# Altium schematic symbol library Dahlia Carrier Board.SchLib: 161 symbols (part 1 of 2)
Pins are listed as number, name and electrical type; pins without a type are passive.

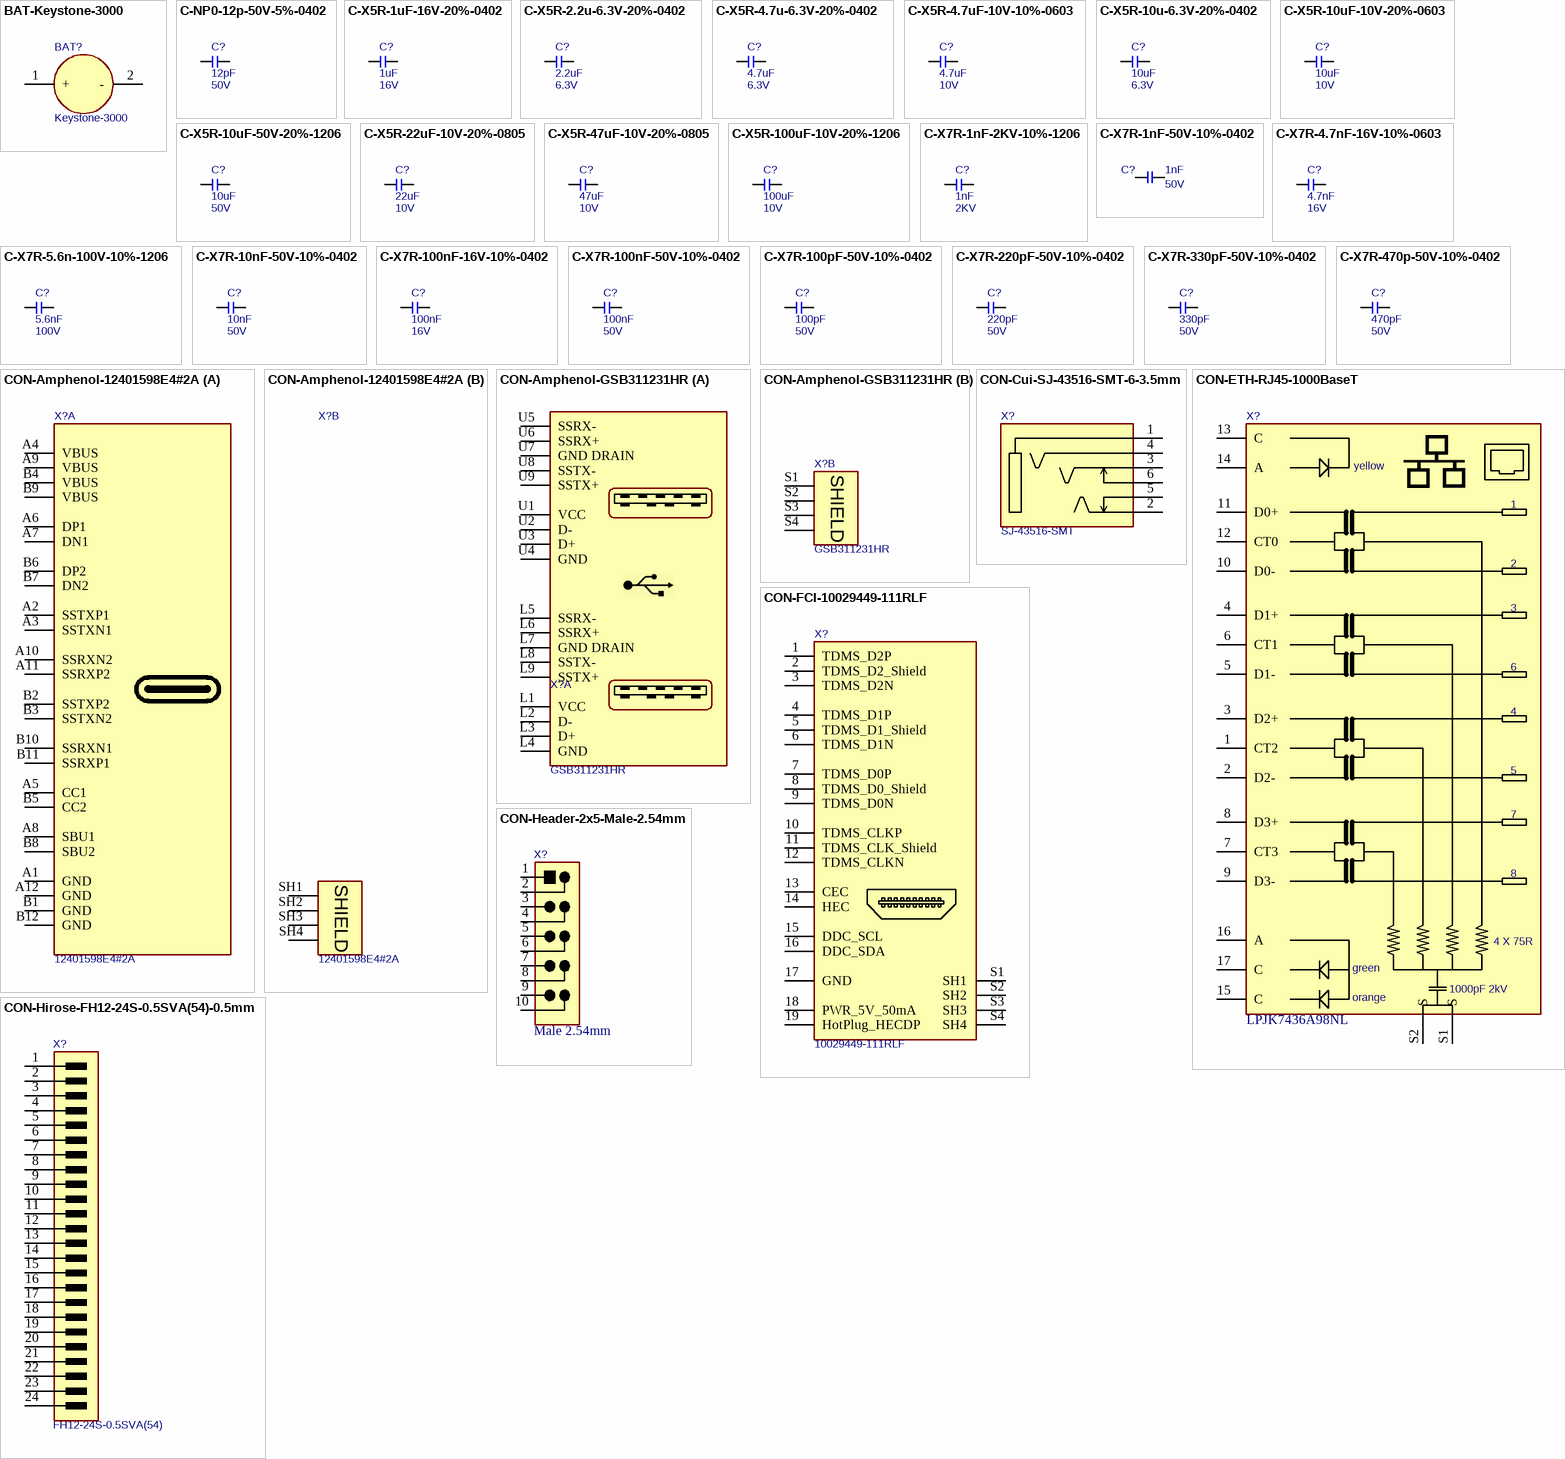
[diagram p0: symbols BAT-Keystone-3000 to CON-Hirose-FH12-24S-0.5SVA(54)-0.5mm]

## BAT-Keystone-3000
designator BAT?, comment Keystone-3000
Battery Holder; Manufacturer Part No.: 3000; Manufacturer Name: Keystone
footprint T_Keystone_3000 (Battery Holder)
pins: 1 +, 2 -

## C-NP0-12p-50V-5%-0402
designator C?, comment Rating: 50V  (hidden comment: 12pF)
Capacitor Ceramic NP0  12pF 50V 5% 0402; Tolerance: 5%; Type: NP0; Value: 12pF
footprint CAPC1005X60N
pins: 1, 2

## C-X5R-1uF-16V-20%-0402
designator C?, comment Rating: 16V  (hidden comment: 1uF)
Capacitor Ceramic X5R 1uF 16V 20% 0402; Tolerance: 20%; Type: X5R; Value: 1uF
footprint CAPC1005X60N
pins: 1, 2

## C-X5R-2.2u-6.3V-20%-0402
designator C?, comment Rating: 6.3V  (hidden comment: 2.2uF)
Capacitor Ceramic X5R 2.2uF 6.3V 20% 0402; Tolerance: 20%; Type: X5R; Value: 2.2uF
footprint CAPC1005X60N
pins: 1, 2

## C-X5R-4.7u-6.3V-20%-0402
designator C?, comment Rating: 6.3V  (hidden comment: 4.7uF)
Capacitor Ceramic X5R 4.7uF 6.3V 20% 0402; Tolerance: 20%; Type: X5R; Value: 4.7uF
footprint CAPC1005X60N
pins: 1, 2

## C-X5R-4.7uF-10V-10%-0603
designator C?, comment Rating: 10V  (hidden comment: 4.7uF)
Capacitor Ceramic X5R 4.7uF 10V 10% 0603; Tolerance: 10%; Type: X5R; Value: 4.7uF; ClassName: Power_Poly
footprint T_CAPC0603X33N
pins: 1, 2

## C-X5R-10u-6.3V-20%-0402
designator C?, comment Rating: 6.3V  (hidden comment: 10uF)
Capacitor Ceramic X5R 10uF 6.3V 20% 0402; Tolerance: 20%; Type: X5R; Value: 10uF
footprint CAPC1005X60N (Ceramic Capacitor 0402 (1005 metric), max height 0.5mm)
pins: 1, 2

## C-X5R-10uF-10V-20%-0603
designator C?, comment Rating: 10V  (hidden comment: 10uF)
Capacitor Ceramic X5R 10uF 10V 20% 0603; Tolerance: 20%; Type: X5R; Value: 10uF
footprint T_CAPC0603X33N
pins: 1, 2

## C-X5R-10uF-50V-20%-1206
designator C?, comment Rating: 50V  (hidden comment: 10uF)
Capacitor Ceramic X5R 10uF 50V 20% 1206; Tolerance: 20%; Type: X5R; Value: 10uF
footprint T_CAPC1206X60N
pins: 1, 2

## C-X5R-22uF-10V-20%-0805
designator C?, comment Rating: 10V  (hidden comment: 22uF)
Capacitor Ceramic X5R 22uF 10V 20% 0805; Tolerance: 20%; Type: X5R; Value: 22uF; ClassName: Power_Poly
footprint T_CAPC0805X125N
pins: 1, 2

## C-X5R-47uF-10V-20%-0805
designator C?, comment Rating: 10V  (hidden comment: 47uF)
Capacitor Ceramic X5R 47uF 10V 20% 0805; Tolerance: 20%; Type: X5R; Value: 47uF
footprint T_CAPC0805X125N
pins: 1, 2

## C-X5R-100uF-10V-20%-1206
designator C?, comment Rating: 10V  (hidden comment: 100uF)
Capacitor Ceramic X5R 100uF 10V 20% 1206; Tolerance: 20%; Type: X5R; Value: 100uF
footprint T_CAPC1206X60N
pins: 1, 2

## C-X7R-1nF-2KV-10%-1206
designator C?, comment Rating: 2KV  (hidden comment: 1nF)
Capacitor Ceramic X7R 1nF 2KV 10% 1206; Tolerance: 10%; Type: X7R; Value: 1nF
footprint T_CAPC1206X180N (Ceramic Capacitor 1206 (3216 metric), max height 1.8mm)
pins: 1, 2

## C-X7R-1nF-50V-10%-0402
designator C?, comment Rating: 50V  (hidden comment: 1nF)
Capacitor Ceramic X7R 1nF 50V 10% 0402; Tolerance: 10%; Type: X7R; Value: 1nF
footprint CAPC1005X60N
pins: 1, 2

## C-X7R-4.7nF-16V-10%-0603
designator C?, comment Rating: 16V  (hidden comment: 4.7nF)
Capacitor Ceramic X7R 4.7nF 16V 10% 0603; Type: X7R; Tolerance: 10%; Value: 4.7nF
footprint T_CAPC0603X33N
pins: 1, 2

## C-X7R-5.6n-100V-10%-1206
designator C?, comment Rating: 100V  (hidden comment: 5.6nF)
Capacitor Ceramic X7R 5.6nF 100V 10% 1206; Tolerance: 10%; Type: X7R; Value: 5.6nF
footprint T_CAPC1206X180N (Ceramic Capacitor 1206 (3216 metric), max height 1.8mm)
pins: 1, 2

## C-X7R-10nF-50V-10%-0402
designator C?, comment Rating: 50V  (hidden comment: 10nF)
Capacitor Ceramic X7R 10nF 50V 10% 0402; Tolerance: 10%; Type: X7R; Value: 10nF
footprint CAPC1005X60N
pins: 1, 2

## C-X7R-100nF-16V-10%-0402
designator C?, comment Rating: 16V  (hidden comment: 100nF)
Capacitor Ceramic X7R 100nF 16V 10% 0402; Tolerance: 10%; Type: X7R; Value: 100nF
footprint CAPC1005X60N
pins: 1, 2

## C-X7R-100nF-50V-10%-0402
designator C?, comment Rating: 50V  (hidden comment: 100nF)
Capacitor Ceramic X7R 100nF 50V 10% 0402; Tolerance: 10%; Type: X7R; Value: 100nF
footprint CAPC1005X60N
pins: 1, 2

## C-X7R-100pF-50V-10%-0402
designator C?, comment Rating: 50V  (hidden comment: 100pF)
Capacitor Ceramic X7R 100pF 50V 10% 0402; Tolerance: 10%; Type: X7R; Value: 100pF
footprint CAPC1005X60N
pins: 1, 2

## C-X7R-220pF-50V-10%-0402
designator C?, comment Rating: 50V  (hidden comment: 220pF)
Capacitor Ceramic X7R  220pF 50V 10% 0402; Tolerance: 10%; Type: X7R; Value: 220pF
footprint CAPC1005X60N
pins: 1, 2

## C-X7R-330pF-50V-10%-0402
designator C?, comment Rating: 50V  (hidden comment: 330pF)
Capacitor Ceramic X7R 330pF 50V 10% 0402; Tolerance: 10%; Type: X7R; Value: 330pF
footprint CAPC1005X60N
pins: 1, 2

## C-X7R-470p-50V-10%-0402
designator C?, comment Rating: 50V  (hidden comment: 470pF)
Capacitor Ceramic X7R 470pF 50V 10% 0402; Tolerance: 10%; Type: X7R; Value: 470pF
footprint CAPC1005X60N
pins: 1, 2

## CON-Amphenol-12401598E4#2A
designator X?, comment 12401598E4#2A
USB 3.1 Gen 2, Input Output Connectors, USB type C, Receptacle, Top mount, dual-row SMT, 1.6mmPCB; Manufacturer Name: Amphenol; No. of ways: 24; Manufacturer Part No.: 12401598E4#2A
footprint CON-AMPHENOL-12401598E4#2A (USB 3.1 Gen 2, Input Output Connectors, USB type C, Receptacle, Top mount, dual-row SMT, 1.6mmPCB)
part A pins: A1 GND, A2 SSTXP1, A3 SSTXN1, A4 VBUS, A5 CC1, A6 DP1, A7 DN1, A8 SBU1, A9 VBUS, A10 SSRXN2, A11 SSRXP2, A12 GND, B1 GND, B2 SSTXP2, B3 SSTXN2, B4 VBUS, B5 CC2, B6 DP2, B7 DN2, B8 SBU2, B9 VBUS, B10 SSRXN1, B11 SSRXP1, B12 GND
part B pins: SH1 SHIELD, SH2 SHIELD, SH3 SHIELD, SH4 SHIELD

## CON-Amphenol-GSB311231HR
designator X?, comment GSB311231HR
USB 3.0 double row, Type A; Manufacturer Name: Amphenol; No. of ways: 18; Manufacturer Part No.: GSB311231HR
footprint T_AMPHENOL_ GSB311231HR (USB 3.0 double row, Type A)
part A pins: L1 VCC (power), L2 D-, L3 D+, L4 GND (power), L5 SSRX- (power), L6 SSRX+ (power), L7 GND DRAIN (power), L8 SSTX- (power), L9 SSTX+ (power), U1 VCC (power), U2 D-, U3 D+, U4 GND (power), U5 SSRX- (power), U6 SSRX+ (power), U7 GND DRAIN (power), U8 SSTX- (power), U9 SSTX+ (power)
part B pins: S1 SHIELD, S2 SHIELD, S3 SHIELD, S4 SHIELD

## CON-Cui-SJ-43516-SMT-6-3.5mm
designator X?, comment SJ-43516-SMT
3.5mm Stereo Jack SMD With Detect Contact; Manufacturer Name: Cui INC; No. of ways: 6; Manufacturer Part No.: SJ-43516-SMT
footprint T_CI_SJ-43516-SMT (STEREO_3.5mm AUDIO JACK  CUI)
pins: 1, 2, 3, 4, 5, 6

## CON-ETH-RJ45-1000BaseT
designator X?, comment LPJK7436A98NL
10/100/1000 MBit/s Gigabit Ethernet RJ45 Connector, Low profile, Mag Jack, Temp. Range: -40C to +100C; Manufacturer Name: LINK-PP; Temperature Range: *; Manufacturer Part No.: LPJK7436A98NL
footprint CON-LINK-PP-LPJK7436A98NL (RJ45 Ethernet Connector 10000BaseT)
pins: 1 CT2, 2 D2-, 3 D2+, 4 D1+, 5 D1-, 6 CT1, 7 CT3, 8 D3+, 9 D3-, 10 D0-, 11 D0+, 12 CT0, 13 C, 14 A, 15 C, 16 A, 17 C, S1 S, S2 S
text: yellow; 4 X 75R; green; 1000pF 2kV; orange

## CON-FCI-10029449-111RLF
designator X?, comment 10029449-111RLF
HDMI Connector Right Angle Vertical THT; Manufacturer Name: FCI; No. of ways: 19; Manufacturer Part No.: 10029449-111RLF
footprint T_FCI_10029449-111RLF (CON RECPT HDMI THT R/A W/O FLNG)
pins: 1 TDMS_D2P, 2 TDMS_D2_Shield, 3 TDMS_D2N, 4 TDMS_D1P, 5 TDMS_D1_Shield, 6 TDMS_D1N, 7 TDMS_D0P, 8 TDMS_D0_Shield, 9 TDMS_D0N, 10 TDMS_CLKP, 11 TDMS_CLK_Shield, 12 TDMS_CLKN, 13 CEC, 14 HEC, 15 DDC_SCL, 16 DDC_SDA, 17 GND, 18 PWR_5V_50mA, 19 HotPlug_HECDP, S1 SH1, S2 SH2, S3 SH3, S4 SH4

## CON-Header-2x5-Male-2.54mm
designator X?, comment Male 2.54mm
Header Male, 2x5 Pins, 2.54mm pitch; Manufacturer Name: FCI; Manufacturer Part No.: 77313-101-10LF; No. of ways: 10
footprint CON-Header-2x5-Male-2.54mm (2.54 mm header)
pins: 1, 2, 3, 4, 5, 6, 7, 8, 9, 10

## CON-Hirose-FH12-24S-0.5SVA(54)-0.5mm
designator X?, comment FH12-24S-0.5SVA(54)
0.50mm Pitch FFC/FPC Vertical DVI Connector; Manufacturer Name: Hirose; No. of ways: 24; Pitch: 0.5mm; Manufacturer Part No.: FH12-24S-0.5SVA(54)
footprint T_Hirose_FH12-24S-0.5SVA(54) (FFC Connector 0.5mm pitch Vertical)
pins: 1 GND, 2 TMDS_CLK_P, 3 TMDS_CLK_N, 4 GND, 5 TMDS_DATA0_P, 6 TMDS_DATA0_N, 7 GND, 8 TMDS_DATA1_P, 9 TMDS_DATA1_N, 10 GND, 11 TMDS_DATA2_P, 12 TMDS_DATA2_N, 13 VDD, 14 HOTPLUG_DETECT, 15 DDC_CLK, 16 DDC_DATA, 17 GND, 18 CRT_RED, 19 GND, 20 CRT_GREEN, 21 GND, 22 CRT_BLUE, 23 CRT_VSYNC, 24 CRT_HSYNC

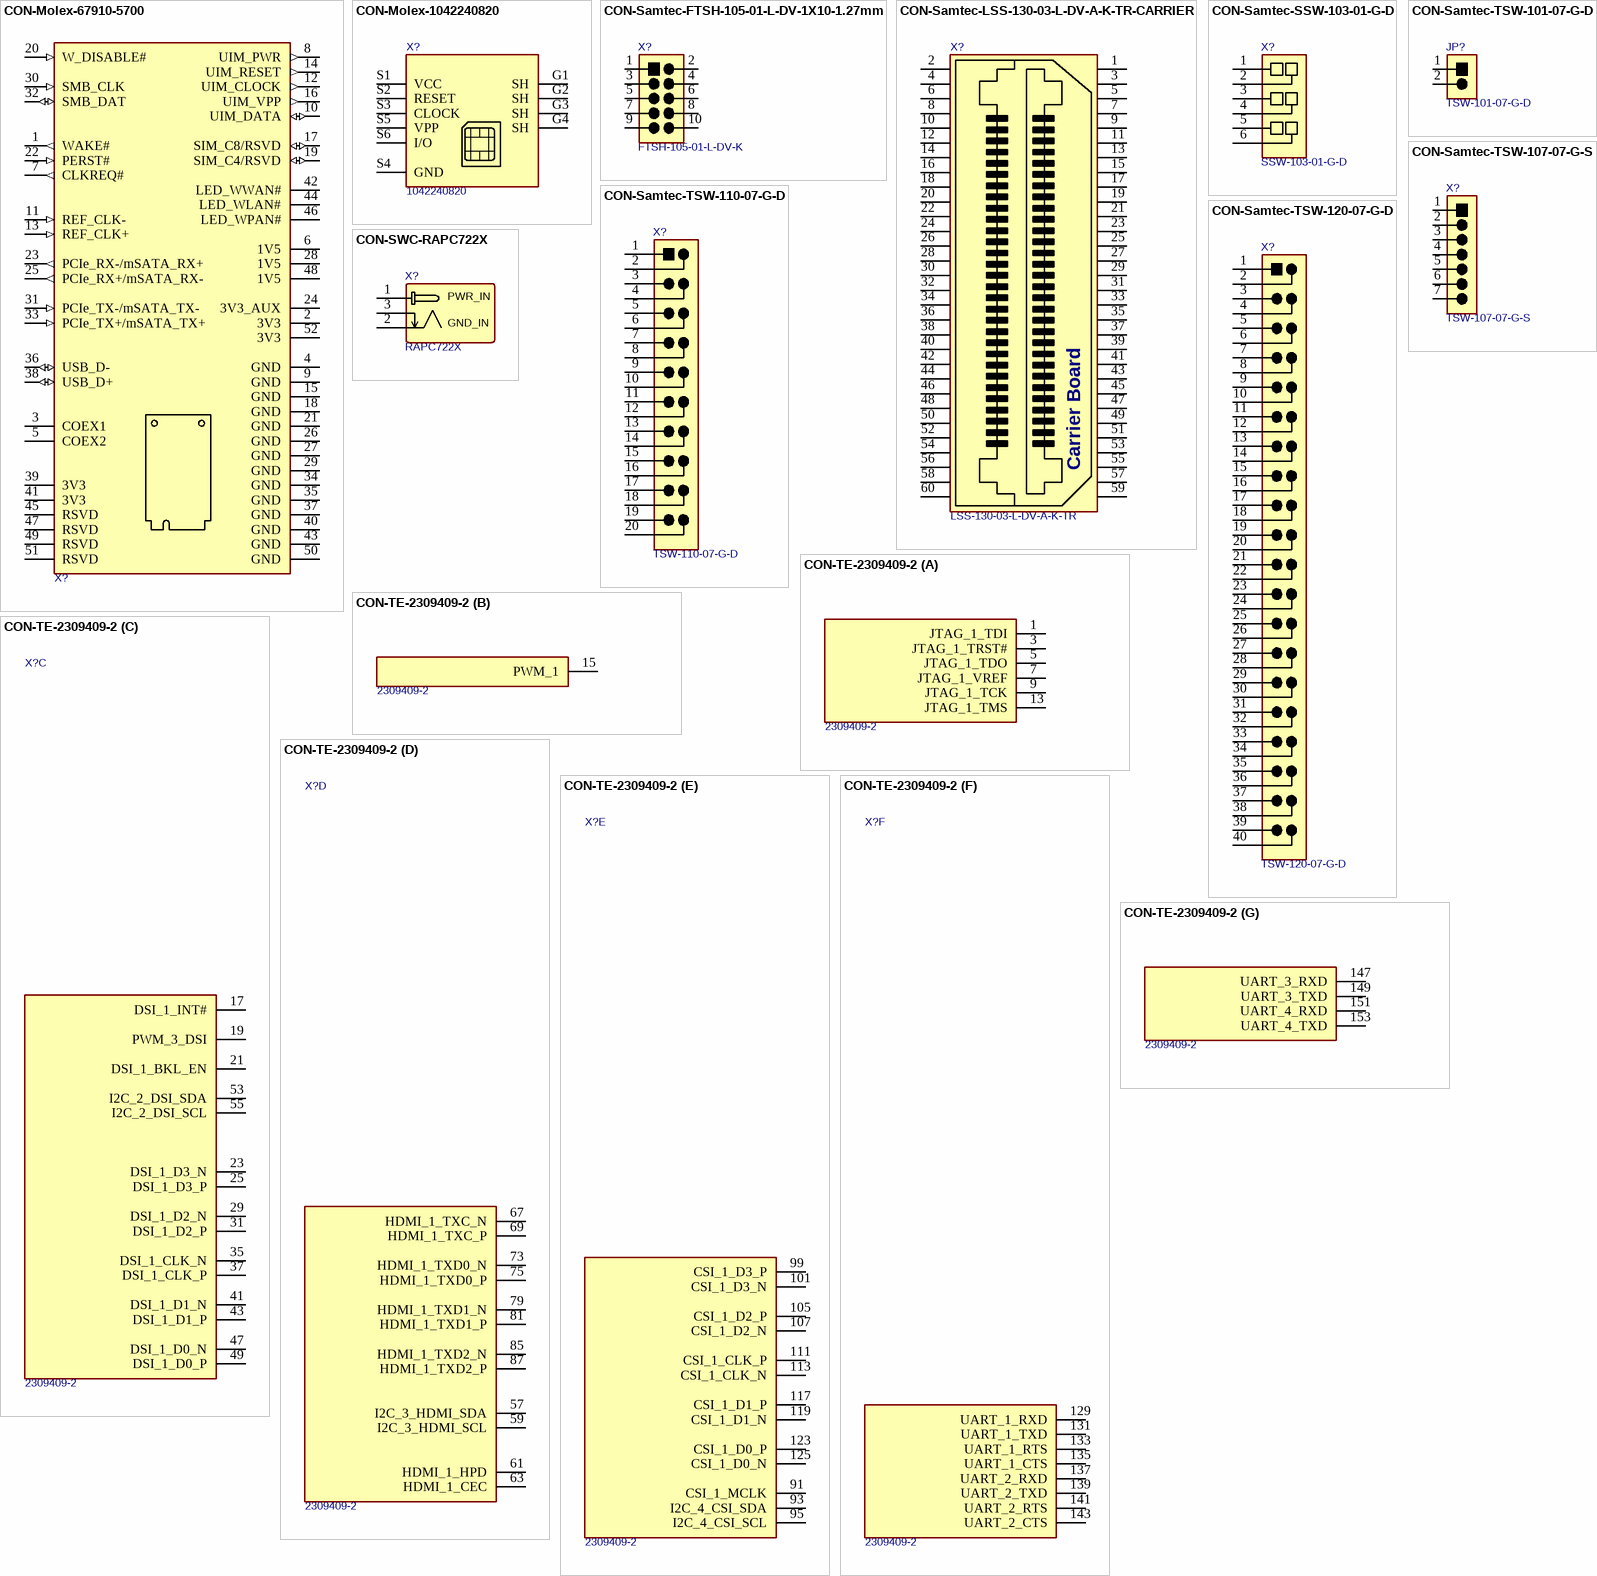
[diagram p1: symbols CON-Molex-67910-5700 to CON-TE-2309409-2]

## CON-Molex-67910-5700
designator X?, comment 67910-5700  (value not drawn)
PCIe_Mini Card Holder; Manufacturer Name: Molex; Manufacturer Part No.: 67910-5700
footprint CON-Molex-67910-5700-Full (Molex PCIe mini card connector with clip)
footprint CON-Molex-67910-5700-Half/Full (Molex PCIe mini card connector with clip)
pins: 1 WAKE# (out), 2 3V3 (power), 3 COEX1, 4 GND (power), 5 COEX2, 6 1V5 (power), 7 CLKREQ# (out), 8 UIM_PWR (out), 9 GND (power), 10 UIM_DATA (io), 11 REF_CLK- (in), 12 UIM_CLOCK (out), 13 REF_CLK+ (in), 14 UIM_RESET (out), 15 GND (power), 16 UIM_VPP (out), 17 SIM_C8/RSVD (io), 18 GND (power), 19 SIM_C4/RSVD (io), 20 W_DISABLE# (in), 21 GND (power), 22 PERST# (in), 23 PCIe_RX-/mSATA_RX+ (out), 24 3V3_AUX (power), 25 PCIe_RX+/mSATA_RX- (out), 26 GND (power), 27 GND (power), 28 1V5 (power), 29 GND (power), 30 SMB_CLK (in), 31 PCIe_TX-/mSATA_TX- (in), 32 SMB_DAT (io), 33 PCIe_TX+/mSATA_TX+ (in), 34 GND (power), 35 GND (power), 36 USB_D- (io), 37 GND (power), 38 USB_D+ (io), 39 3V3, 40 GND (power), 41 3V3, 42 LED_WWAN# (oc), 43 GND (power), 44 LED_WLAN# (oc), 45 RSVD, 46 LED_WPAN# (oc), 47 RSVD, 48 1V5 (power), 49 RSVD, 50 GND (power), 51 RSVD, 52 3V3 (power)

## CON-Molex-1042240820
designator X?, comment 1042240820
6 Contacts Nano Sim Card Holder; Manufacturer Name: Molex; Manufacturer Part No.: 1042240820
footprint T_Molex_1042240820
pins: G1 SH, G2 SH, G3 SH, G4 SH, S1 VCC, S2 RESET, S3 CLOCK, S4 GND, S5 VPP, S6 I/O

## CON-Samtec-FTSH-105-01-L-DV-1X10-1.27mm
designator X?, comment FTSH-105-01-L-DV-K
Male Header, 10-Pin, 1.27mm Pitch; Manufacturer Name: Samtec; No. of ways: 1X10; Pitch: 1.27mm; Manufacturer Part No.: FTSH-105-01-L-DV-K
footprint T_Samtec_FTSH-105-01-L-DV (Header, 2x5 Pins, 1.27mm pitch, male)
pins: 1, 2, 3, 4, 5, 6, 7, 8, 9, 10

## CON-Samtec-LSS-130-03-L-DV-A-K-TR-CARRIER
designator X?, comment LSS-130-03-L-DV-A-K-TR
60 Position Connector, Self Mating, Non-Gendered, Surface Mount; Manufacturer Name: Samtec; Pitch: 0.635mm; No. of ways: 60; Manufacturer Part No.: LSS-130-03-L-DV-A-K-TR
footprint CON-SAMTEC-LSS-130-03-L-DV-A-CARRIER (0.635 mm Razor Beam High-Speed Hermaphroditic Terminal/Socket Strip)
pins: 1, 2, 3, 4, 5, 6, 7, 8, 9, 10, 11, 12, 13, 14, 15, 16, 17, 18, 19, 20, 21, 22, 23, 24, 25, 26, 27, 28, 29, 30, 31, 32, 33, 34, 35, 36, 37, 38, 39, 40, 41, 42, 43, 44, 45, 46, 47, 48, 49, 50, 51, 52, 53, 54, 55, 56, 57, 58, 59, 60
text: Carrier Board

## CON-Samtec-SSW-103-01-G-D
designator X?, comment Manufacturer Part No.: SSW-103-01-G-D  (hidden comment: TSW-103-01-G-D)
Receptacle Female Socket, 2x3 Pins, 2.54mm pitch; Manufacturer Name: Samtec; No. of ways: 2x3; Pitch: 2.54mm
footprint T_Samtec_SSW-103-01-G-D (Receptacle Female Socket  2x3 Pins, 2.54 mm pitch)
pins: 1, 2, 3, 4, 5, 6

## CON-Samtec-TSW-101-07-G-D
designator JP?, comment TSW-101-07-G-D
Header male, 1x2 Pins, 2.54 mm pitch; Manufacturer Name: Samtec; Pitch: 2.54 mm; No. of ways: 1x2; Manufacturer Part no.: TSW-101-07-G-D
footprint T_Samtec_TSW-101-07-G-D (Header, 1x2 Pins, 2.54 mm pitch, male)
pins: 1, 2

## CON-Samtec-TSW-107-07-G-S
designator X?, comment TSW-107-07-G-S
Header male, 1X7 Pins, 2.54 mm pitch; Manufacturer Name: Samtec; Pitch: 2.54 mm; No. of ways: 1X7; Manufacturer Part No.: TSW-107-07-G-S
footprint T_Samtec_TSW-107-07-G-S
pins: 1, 2, 3, 4, 5, 6, 7

## CON-Samtec-TSW-110-07-G-D
designator X?, comment TSW-110-07-G-D
Header 2x10 pin 2.54mm pitch; Manufacturer Name: Samtec; Pitch: 2.54mm; No. of ways: 2x10; Manufacturer Part No.: TSW-110-07-G-D
footprint T_Samtec_TSW-110-07-G-D
pins: 1, 2, 3, 4, 5, 6, 7, 8, 9, 10, 11, 12, 13, 14, 15, 16, 17, 18, 19, 20

## CON-Samtec-TSW-120-07-G-D
designator X?, comment TSW-120-07-G-D
Header 2x20 pin 2.54mm pitch; Manufacturer Name: Samtec; Pitch: 2.54mm; No. of ways: 2x20; Manufacturer Part No.: TSW-120-07-G-D
footprint T_Samtec_TSW-120-07-G-D (Header, 2x20 Pins, 2.54 mm pitch, male)
pins: 1, 2, 3, 4, 5, 6, 7, 8, 9, 10, 11, 12, 13, 14, 15, 16, 17, 18, 19, 20, 21, 22, 23, 24, 25, 26, 27, 28, 29, 30, 31, 32, 33, 34, 35, 36, 37, 38, 39, 40

## CON-SWC-RAPC722X
designator X?, comment RAPC722X
Power Jack; Manufacturer Name: SWC; Manufacturer Part No.: RAPC722X
footprint T_RAPC722X (Connector, 2.1mm (Dia), 5.5mm(Dia), Round Power Socket)
pins: 1 GND_IN, 2 PWR_IN, 3 PWR_IN

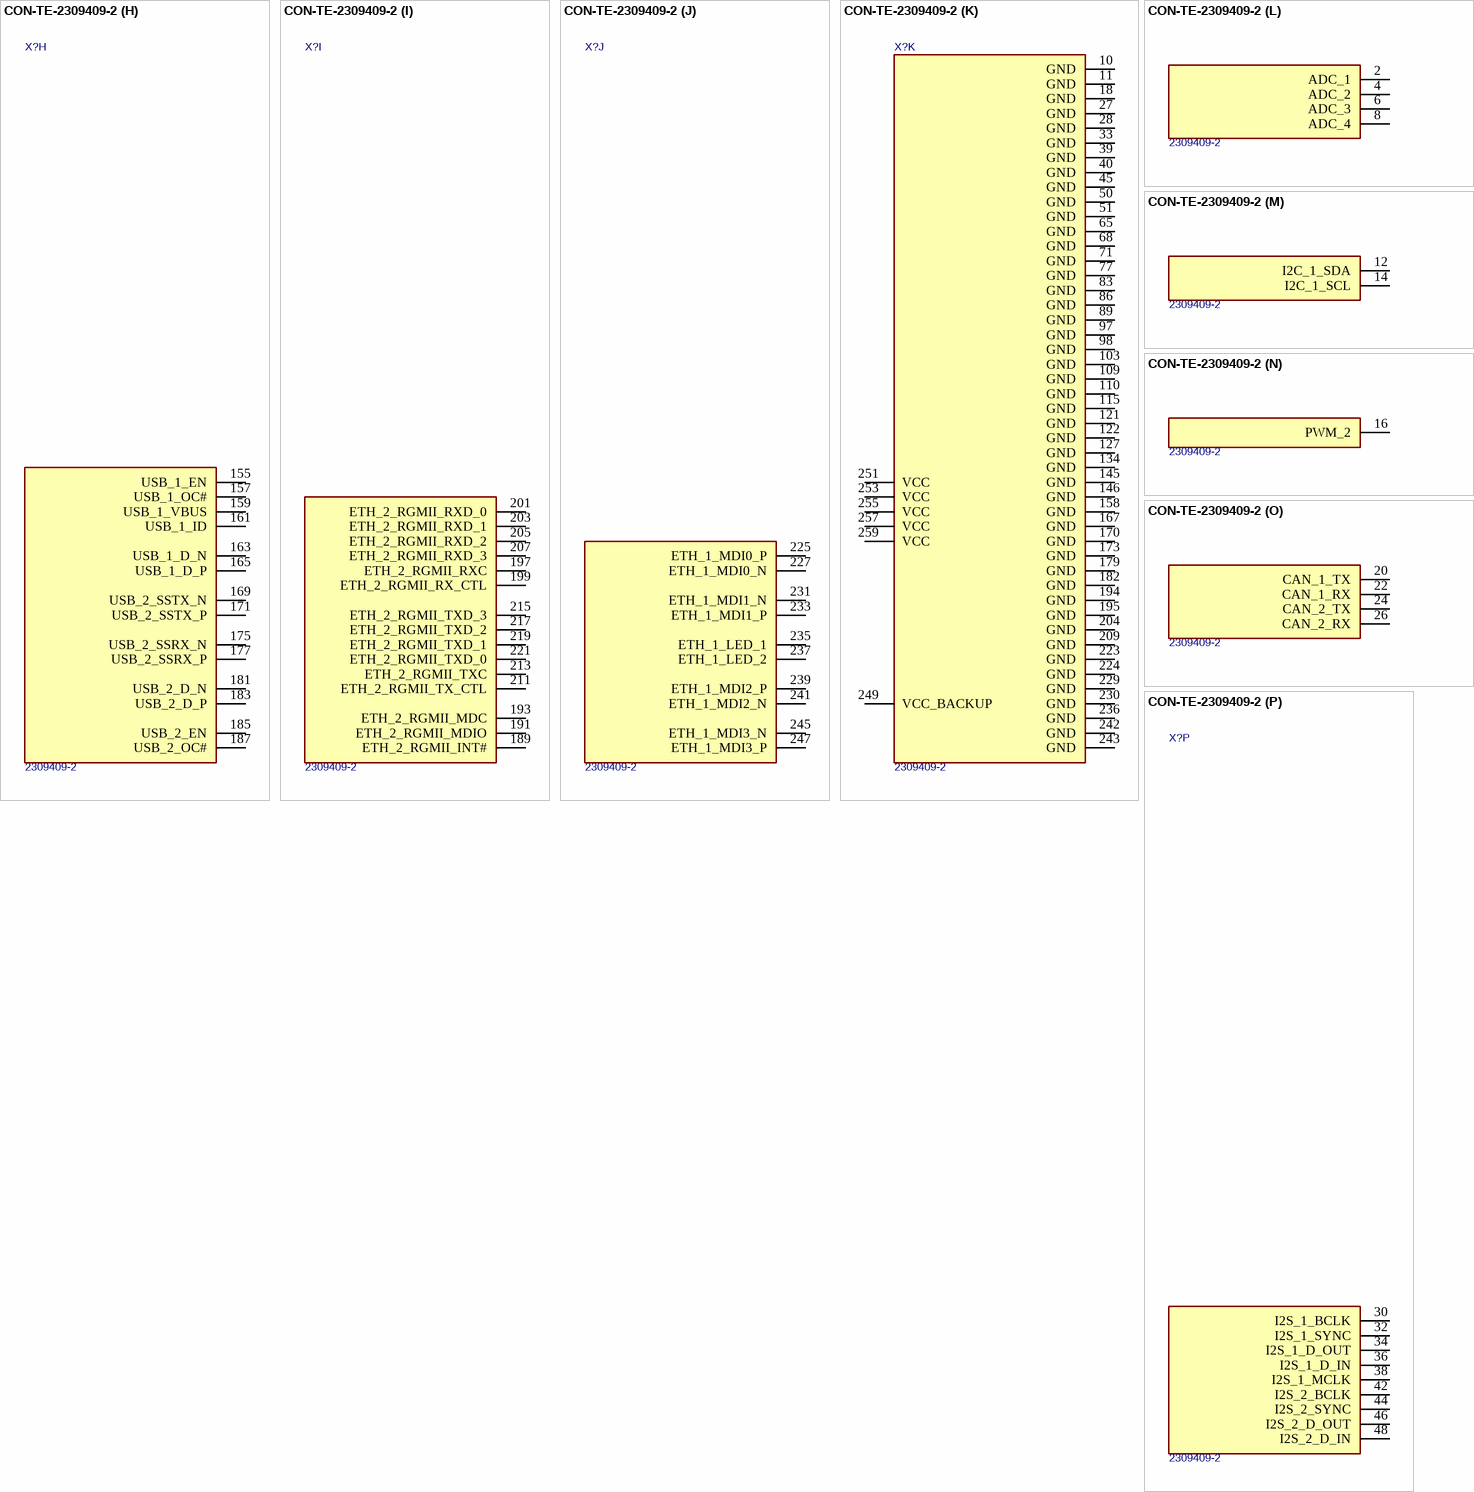
[diagram p2: symbol CON-TE-2309409-2]

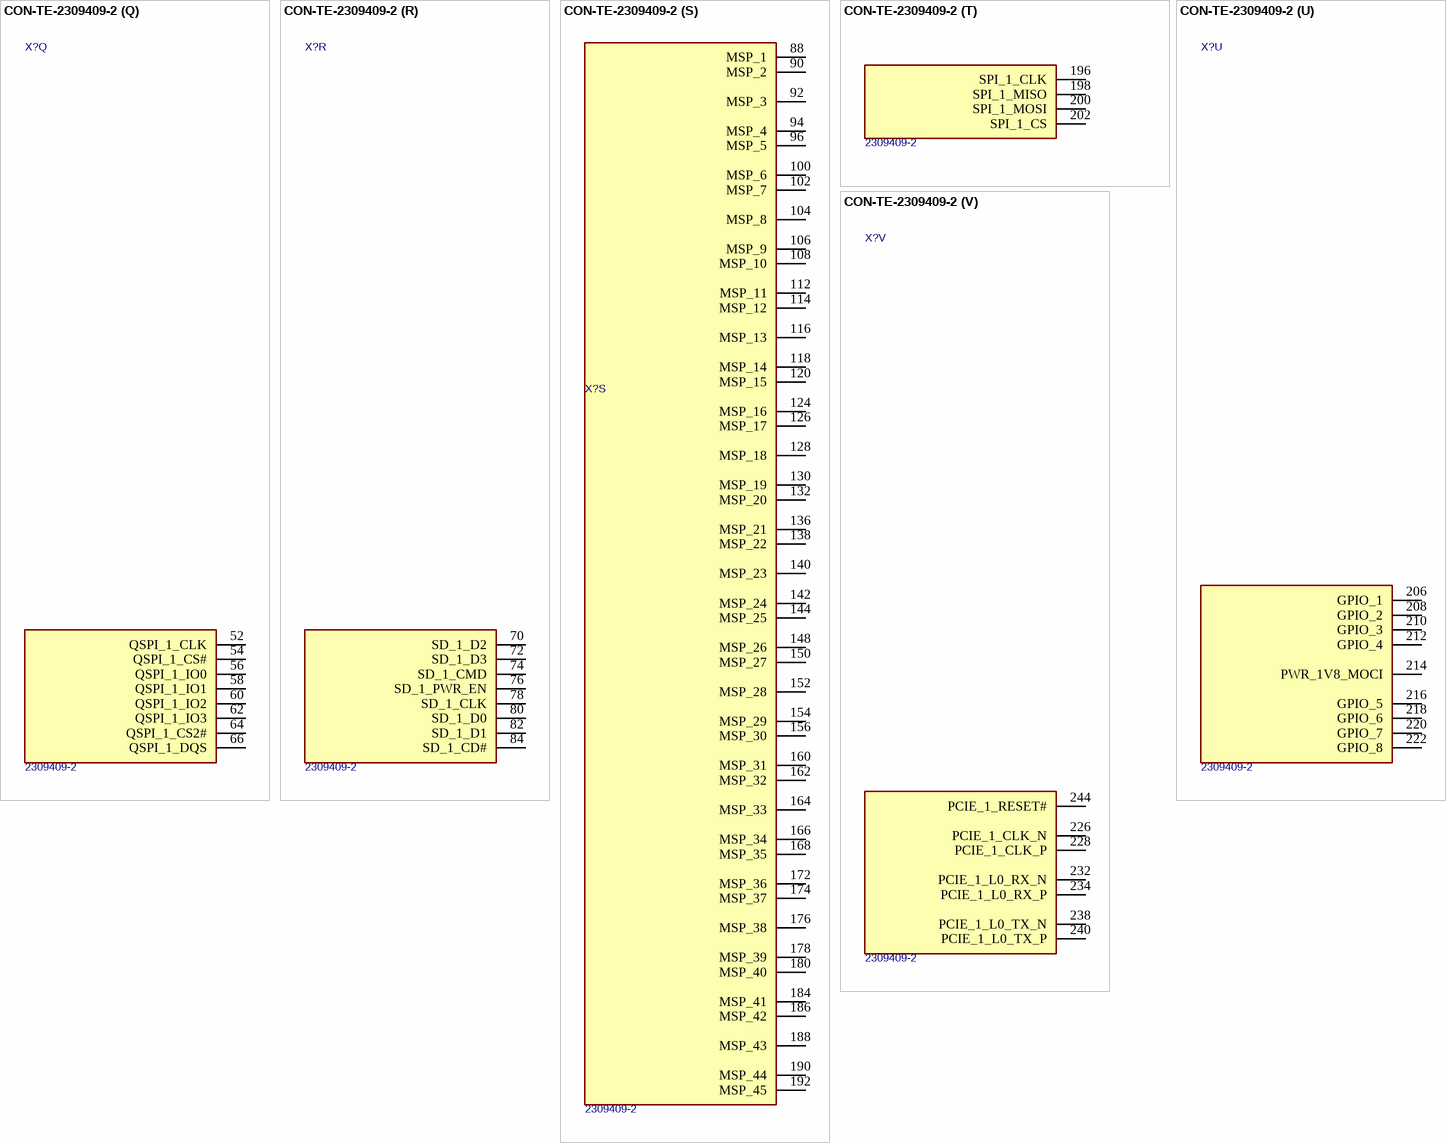
[diagram p3: symbol CON-TE-2309409-2]

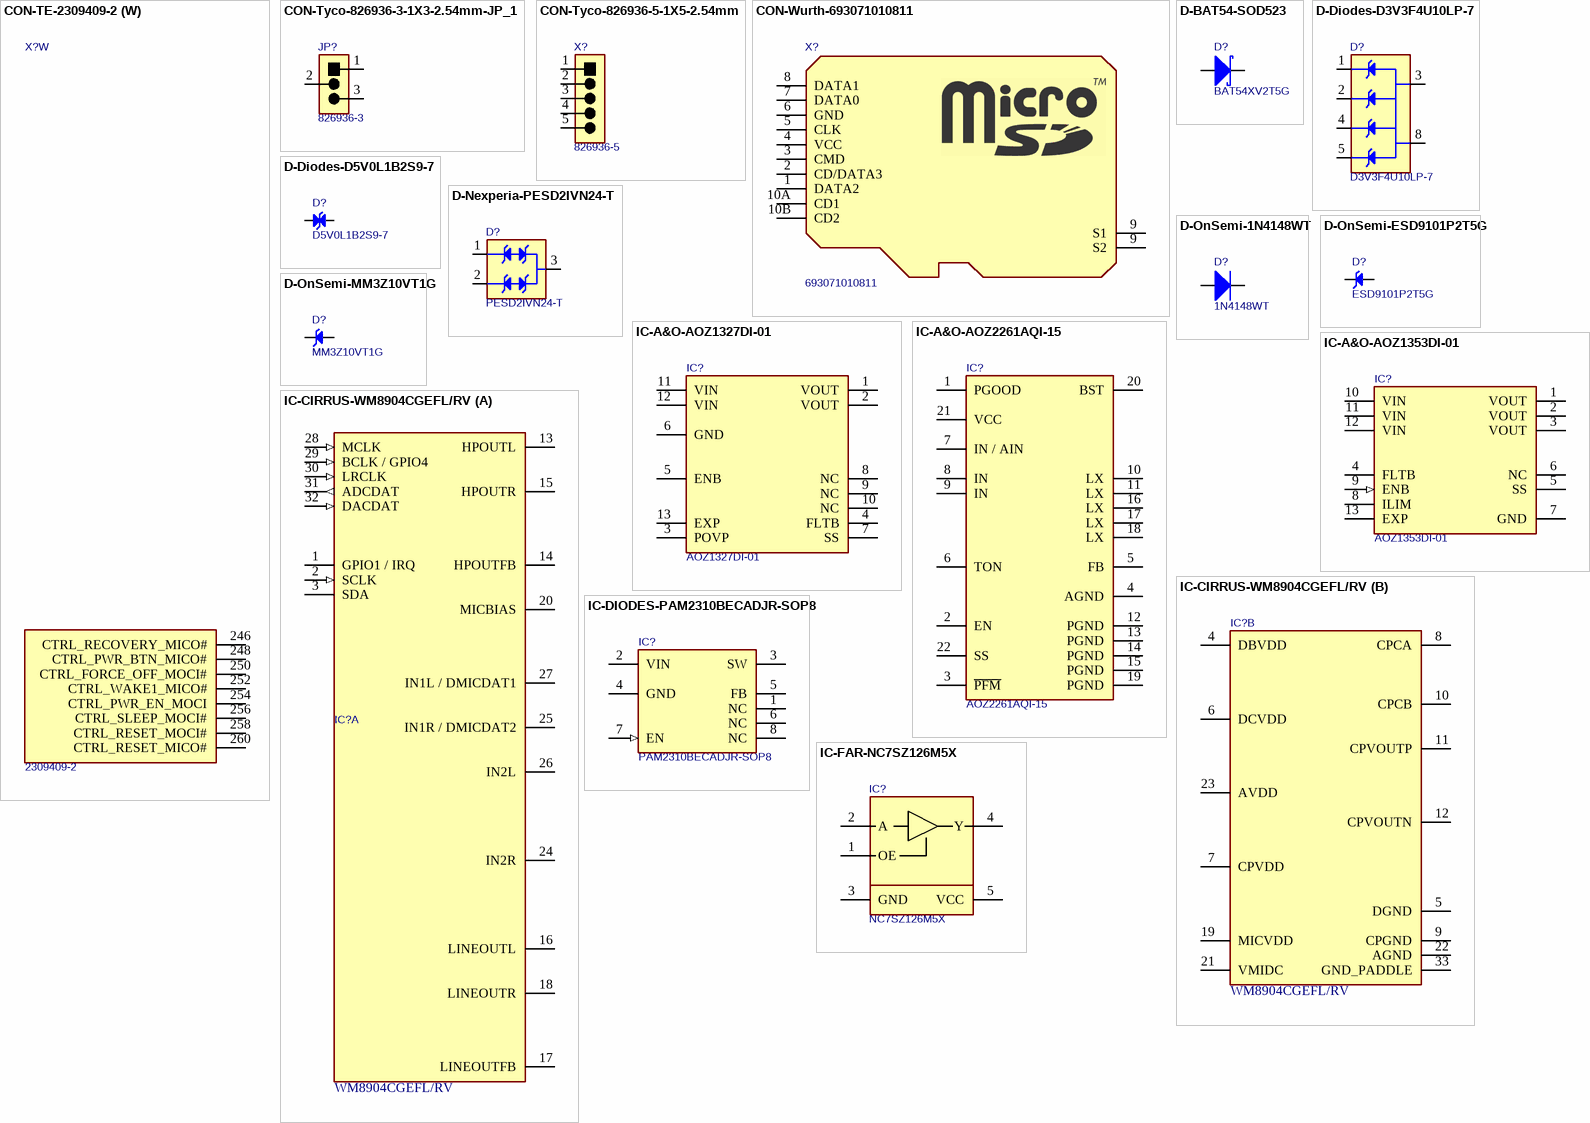
[diagram p4: symbols CON-TE-2309409-2 to IC-FAR-NC7SZ126M5X]

## CON-TE-2309409-2
designator X?, comment 2309409-2
DDR4 SODIMM Socket, 260 pins, 5.2mm(H), 0.5mm Pitch; Manufacturer Name: TE; Temperature Range: -40C to +125C; Package: DDR4-SODIMM-260; Manufacturer Part No.: 2309409-2
footprint CON-TE-2309409-2 (DDDR4 SODIMM SOCKET, 260 PINS, 0.5mm PITCH)
footprint CON-TE-2309409-2-SOLDERABLE-STANDOFFS
part A pins: 1 JTAG_1_TDI, 3 JTAG_1_TRST#, 5 JTAG_1_TDO, 7 JTAG_1_VREF, 9 JTAG_1_TCK, 13 JTAG_1_TMS
part B pins: 15 PWM_1
part C pins: 17 DSI_1_INT#, 19 PWM_3_DSI, 21 DSI_1_BKL_EN, 23 DSI_1_D3_N, 25 DSI_1_D3_P, 29 DSI_1_D2_N, 31 DSI_1_D2_P, 35 DSI_1_CLK_N, 37 DSI_1_CLK_P, 41 DSI_1_D1_N, 43 DSI_1_D1_P, 47 DSI_1_D0_N, 49 DSI_1_D0_P, 53 I2C_2_DSI_SDA, 55 I2C_2_DSI_SCL
part D pins: 57 I2C_3_HDMI_SDA, 59 I2C_3_HDMI_SCL, 61 HDMI_1_HPD, 63 HDMI_1_CEC, 67 HDMI_1_TXC_N, 69 HDMI_1_TXC_P, 73 HDMI_1_TXD0_N, 75 HDMI_1_TXD0_P, 79 HDMI_1_TXD1_N, 81 HDMI_1_TXD1_P, 85 HDMI_1_TXD2_N, 87 HDMI_1_TXD2_P
part E pins: 91 CSI_1_MCLK, 93 I2C_4_CSI_SDA, 95 I2C_4_CSI_SCL, 99 CSI_1_D3_P, 101 CSI_1_D3_N, 105 CSI_1_D2_P, 107 CSI_1_D2_N, 111 CSI_1_CLK_P, 113 CSI_1_CLK_N, 117 CSI_1_D1_P, 119 CSI_1_D1_N, 123 CSI_1_D0_P, 125 CSI_1_D0_N
part F pins: 129 UART_1_RXD, 131 UART_1_TXD, 133 UART_1_RTS, 135 UART_1_CTS, 137 UART_2_RXD, 139 UART_2_TXD, 141 UART_2_RTS, 143 UART_2_CTS
part G pins: 147 UART_3_RXD, 149 UART_3_TXD, 151 UART_4_RXD, 153 UART_4_TXD
part H pins: 155 USB_1_EN, 157 USB_1_OC# (power), 159 USB_1_VBUS (power), 161 USB_1_ID, 163 USB_1_D_N (power), 165 USB_1_D_P, 169 USB_2_SSTX_N, 171 USB_2_SSTX_P, 175 USB_2_SSRX_N, 177 USB_2_SSRX_P, 181 USB_2_D_N, 183 USB_2_D_P, 185 USB_2_EN, 187 USB_2_OC#
part I pins: 189 ETH_2_RGMII_INT# (power), 191 ETH_2_RGMII_MDIO, 193 ETH_2_RGMII_MDC (power), 197 ETH_2_RGMII_RXC, 199 ETH_2_RGMII_RX_CTL (power), 201 ETH_2_RGMII_RXD_0, 203 ETH_2_RGMII_RXD_1, 205 ETH_2_RGMII_RXD_2, 207 ETH_2_RGMII_RXD_3, 211 ETH_2_RGMII_TX_CTL, 213 ETH_2_RGMII_TXC, 215 ETH_2_RGMII_TXD_3, 217 ETH_2_RGMII_TXD_2, 219 ETH_2_RGMII_TXD_1, 221 ETH_2_RGMII_TXD_0
part J pins: 225 ETH_1_MDI0_P (power), 227 ETH_1_MDI0_N, 231 ETH_1_MDI1_N (power), 233 ETH_1_MDI1_P, 235 ETH_1_LED_1, 237 ETH_1_LED_2, 239 ETH_1_MDI2_P, 241 ETH_1_MDI2_N, 245 ETH_1_MDI3_N, 247 ETH_1_MDI3_P
part K pins: 10 GND, 11 GND, 18 GND, 27 GND, 28 GND, 33 GND, 39 GND, 40 GND, 45 GND, 50 GND, 51 GND, 65 GND, 68 GND, 71 GND, 77 GND, 83 GND, 86 GND, 89 GND, 97 GND, 98 GND, 103 GND, 109 GND, 110 GND, 115 GND, 121 GND, 122 GND, 127 GND, 134 GND, 145 GND, 146 GND, 158 GND, 167 GND, 170 GND, 173 GND, 179 GND, 182 GND, 194 GND, 195 GND, 204 GND, 209 GND, 223 GND, 224 GND, 229 GND, 230 GND, 236 GND, 242 GND, 243 GND, 249 VCC_BACKUP, 251 VCC, 253 VCC, 255 VCC, 257 VCC, 259 VCC
part L pins: 2 ADC_1, 4 ADC_2, 6 ADC_3, 8 ADC_4
part M pins: 12 I2C_1_SDA, 14 I2C_1_SCL
part N pins: 16 PWM_2
part O pins: 20 CAN_1_TX, 22 CAN_1_RX, 24 CAN_2_TX, 26 CAN_2_RX
part P pins: 30 I2S_1_BCLK, 32 I2S_1_SYNC, 34 I2S_1_D_OUT, 36 I2S_1_D_IN, 38 I2S_1_MCLK, 42 I2S_2_BCLK, 44 I2S_2_SYNC, 46 I2S_2_D_OUT, 48 I2S_2_D_IN
part Q pins: 52 QSPI_1_CLK, 54 QSPI_1_CS#, 56 QSPI_1_IO0, 58 QSPI_1_IO1, 60 QSPI_1_IO2, 62 QSPI_1_IO3, 64 QSPI_1_CS2#, 66 QSPI_1_DQS
part R pins: 70 SD_1_D2, 72 SD_1_D3, 74 SD_1_CMD, 76 SD_1_PWR_EN, 78 SD_1_CLK, 80 SD_1_D0, 82 SD_1_D1, 84 SD_1_CD#
part S pins: 88 MSP_1, 90 MSP_2, 92 MSP_3, 94 MSP_4, 96 MSP_5, 100 MSP_6, 102 MSP_7, 104 MSP_8, 106 MSP_9, 108 MSP_10, 112 MSP_11, 114 MSP_12, 116 MSP_13, 118 MSP_14, 120 MSP_15, 124 MSP_16, 126 MSP_17, 128 MSP_18, 130 MSP_19, 132 MSP_20, 136 MSP_21, 138 MSP_22, 140 MSP_23, 142 MSP_24, 144 MSP_25, 148 MSP_26, 150 MSP_27, 152 MSP_28, 154 MSP_29, 156 MSP_30, 160 MSP_31, 162 MSP_32, 164 MSP_33, 166 MSP_34, 168 MSP_35, 172 MSP_36, 174 MSP_37, 176 MSP_38, 178 MSP_39, 180 MSP_40, 184 MSP_41, 186 MSP_42, 188 MSP_43, 190 MSP_44, 192 MSP_45
part T pins: 196 SPI_1_CLK, 198 SPI_1_MISO, 200 SPI_1_MOSI, 202 SPI_1_CS
part U pins: 206 GPIO_1, 208 GPIO_2, 210 GPIO_3, 212 GPIO_4, 214 PWR_1V8_MOCI, 216 GPIO_5, 218 GPIO_6, 220 GPIO_7, 222 GPIO_8
part V pins: 226 PCIE_1_CLK_N, 228 PCIE_1_CLK_P, 232 PCIE_1_L0_RX_N, 234 PCIE_1_L0_RX_P, 238 PCIE_1_L0_TX_N, 240 PCIE_1_L0_TX_P, 244 PCIE_1_RESET#
part W pins: 246 CTRL_RECOVERY_MICO#, 248 CTRL_PWR_BTN_MICO#, 250 CTRL_FORCE_OFF_MOCI#, 252 CTRL_WAKE1_MICO#, 254 CTRL_PWR_EN_MOCI, 256 CTRL_SLEEP_MOCI#, 258 CTRL_RESET_MOCI#, 260 CTRL_RESET_MICO#

## CON-Tyco-826936-3-1X3-2.54mm-JP_1
designator JP?, comment 826936-3
Jumper, 3-Pin; Manufacturer Name: Tyco; No. of ways: 1X3; Pitch: 2.54mm; Manufacturer Part No.: 826936-3
footprint T_TYCO_826936-3 (Connector; Header; 3 Position)
pins: 1, 2, 3

## CON-Tyco-826936-5-1X5-2.54mm
designator X?, comment 826936-5
Header, 5-Pin; Manufacturer Name: Tyco; No. of ways: 1X5; Pitch: 2.54mm; Manufacturer Part No.: 826936-5
footprint T_TYCO_826936-5 (Connector, Header, 4 Position, 2.54mm pitch)
pins: 1, 2, 3, 4, 5

## CON-Wurth-693071010811
designator X?, comment Manufacturer Part No.: 693071010811  (hidden comment: MicroSD Holder)
Micro SD Holder Push Push CD; Manufacturer Name: Wurth; No. of ways: 9
footprint T_Wurth_693071010811 (MicroSD Holder, Push-Pust Type,)
pins: 1 DATA2 (power), 2 CD/DATA3, 3 CMD, 4 VCC, 5 CLK (power), 6 GND (power), 7 DATA0 (power), 8 DATA1 (power), 9 S1, 9 S2, 10A CD1 (power), 10B CD2 (power)

## D-BAT54-SOD523
designator D?, comment BAT54XV2T5G
Schottky Barrier Rectifier; Manufacturer Name: On Semi; Manufacturer Part No.: BAT54XV2T5G
footprint SOD-523
pins: A, C

## D-Diodes-D3V3F4U10LP-7
designator D?, comment D3V3F4U10LP-7
4 CHANNEL LOW CAPACITANCE TVS DIODE ARRAY; Manufacturer Name: Nexperia; Manufacturer Part No.: D3V3F4U10LP-7
footprint D-Diodes-D3V3F4U10LP-7 (U-DFN2510-10 , 10-Leads, Body 1.01x2.51mm, Pitch 0.50mm, IPC Medium Density)
pins: 1, 2, 3 (power), 4, 5, 6, 7, 8 (power), 9, 10

## D-Diodes-D5V0L1B2S9-7
designator D?, comment D5V0L1B2S9-7
BIDIRECTIONAL TVS DIODE 5V  SOD923; Manufacturer Name: Diodes; Manufacturer Part No.: D5V0L1B2S9-7
footprint D-DIODES-SOD-923 (SOD-923, 2-Leads, Body 0.60x1.00mm, IPC Medium Density)
pins: 1 C (power), 2 A (power)

## D-Nexperia-PESD2IVN24-T
designator D?, comment PESD2IVN24-T
TVS Array low cap; Manufacturer Name: Nexperia; Manufacturer Part No.: PESD2IVN24-T
footprint SOT95P230X110-3N
pins: 1 (power), 2 (power), 3 (power)

## D-OnSemi-1N4148WT
designator D?, comment 1N4148WT
Diode Standard 75V 200mA Surface Mount SOD-523F; Manufacturer Name: On Semi; Manufacturer Part No.: 1N4148WT
footprint SOD-523F (SOD-523F 2-Leads, Body 0.80x1.60mm, IPC Medium Density)
pins: A, C

## D-OnSemi-ESD9101P2T5G
designator D?, comment ESD9101P2T5G
ESD Protection Diode; Manufacturer Name: OnSemi; Manufacturer Part No.: ESD9101P2T5G
footprint SOD-923 (SOD-923, 2-Leads, Body 0.60x1.00mm, IPC Medium Density)
pins: 1 C (power), 2 A (power)

## D-OnSemi-MM3Z10VT1G
designator D?, comment MM3Z10VT1G
DIODE ZENER 10V 300MW SOD323; Manufacturer Name: OnSemi; Manufacturer Part No.: MM3Z10VT1G
footprint T_SOD-323 (SOD-323, SMD, 2 pins)
pins: 1 C (power), 2 A (power)

## IC-A&O-AOZ1327DI-01
designator IC?, comment AOZ1327DI-01
20V Protection Switch with True Reverse Current Blocking; Manufacturer Name: Alpha and Omega; Manufacturer Part No.: AOZ1327DI-01
footprint IC-A&O-AOZ1327DI-01 (PSON, 12-Leads, Body 3.00x3.00mm, Pitch 0.50mm, Thermal Pad 2.50x1.50mm, IPC Medium Density)
pins: 1 VOUT (power), 2 VOUT (power), 3 POVP (power), 4 FLTB (power), 5 ENB (power), 6 GND (power), 7 SS (power), 8 NC (power), 9 NC (power), 10 NC (power), 11 VIN (power), 12 VIN (power), 13 EXP (power)

## IC-A&O-AOZ1353DI-01
designator IC?, comment AOZ1353DI-01
5V/3A  Smart Current Limited Load Switch with True Reverse Current Blocking; Manufacturer Name: Alpha and Omega; Manufacturer Part No.: AOZ1353DI-01
footprint IC-A&O-AOZ1353DI-01 (PSON, 12-Leads, Body 3.00x3.00mm, Pitch 0.50mm, Thermal Pad 2.50x1.50mm, IPC Medium Density)
pins: 1 VOUT (power), 2 VOUT (power), 3 VOUT (power), 4 FLTB, 5 SS, 6 NC, 7 GND (power), 8 ILIM, 9 ENB (in), 10 VIN (power), 11 VIN (power), 12 VIN (power), 13 EXP (power)

## IC-A&O-AOZ2261AQI-15
designator IC?, comment AOZ2261AQI-15
8A (Iout(max)) Synchronous Buck Regulator, QFN-22L (4mmx 4mm), Vin = 4V to 28V; Manufacturer Name: Alpha and Omega; Manufacturer Part No.: AOZ2261AQI-15
footprint T_QFN50P400X400X100-22N
pins: 1 PGOOD (power), 2 EN (power), 3 ~{PFM} (power), 4 AGND (power), 5 FB (power), 6 TON (power), 7 IN / AIN (power), 8 IN (power), 9 IN (power), 10 LX (power), 11 LX (power), 12 PGND (power), 13 PGND (power), 14 PGND (power), 15 PGND (power), 16 LX (power), 17 LX (power), 18 LX (power), 19 PGND (power), 20 BST (power), 21 VCC (power), 22 SS (power)

## IC-CIRRUS-WM8904CGEFL/RV
designator IC?, comment WM8904CGEFL/RV
Stereo Audio Interface IC; Manufacturer Name: CIRRUS; Package: *; Temperature Range: *; Manufacturer Part No.: WM8904CGEFL/RV
footprint IC-QFN40P400X400X80_HS-33N (QFN, 32-Leads, Body 4.00x4.00mm, Pitch 0.40mm, Thermal Pad 2.70x2.70mm, IPC Medium Density)
part A pins: 1 GPIO1 / IRQ, 2 SCLK (in), 3 SDA, 13 HPOUTL, 14 HPOUTFB, 15 HPOUTR, 16 LINEOUTL, 17 LINEOUTFB, 18 LINEOUTR, 20 MICBIAS, 24 IN2R, 25 IN1R / DMICDAT2, 26 IN2L, 27 IN1L / DMICDAT1, 28 MCLK (in), 29 BCLK / GPIO4 (in), 30 LRCLK (in), 31 ADCDAT (out), 32 DACDAT (in)
part B pins: 4 DBVDD, 5 DGND, 6 DCVDD, 7 CPVDD, 8 CPCA, 9 CPGND, 10 CPCB, 11 CPVOUTP, 12 CPVOUTN, 19 MICVDD, 21 VMIDC, 22 AGND, 23 AVDD, 33 GND_PADDLE

## IC-DIODES-PAM2310BECADJR-SOP8
designator IC?, comment Manufacturer Part No.: PAM2310BECADJR-SOP8  (hidden comment: PAM2310BECADJR)
Integrated Buck Regulator; Manufacturer Name: Diodes
footprint IC-SO-8EP (SOIC, 8-Leads, Body 6.0x4.9mm (max), Pitch 1.27mm, IPC Medium Density)
pins: 1 NC (power), 2 VIN (power), 3 SW (power), 4 GND (power), 5 FB (power), 6 NC (power), 7 EN (in), 8 NC (power)

## IC-FAR-NC7SZ126M5X
designator IC?, comment NC7SZ126M5X
NC7SZ126M5X  Buffer Three-State Output; Manufacturer Name: Fairchild Semiconductor; Manufacturer Part No.: NC7SZ126M5X
footprint SOT95P279X142-5N
pins: 1 OE, 2 A, 3 GND, 4 Y, 5 VCC

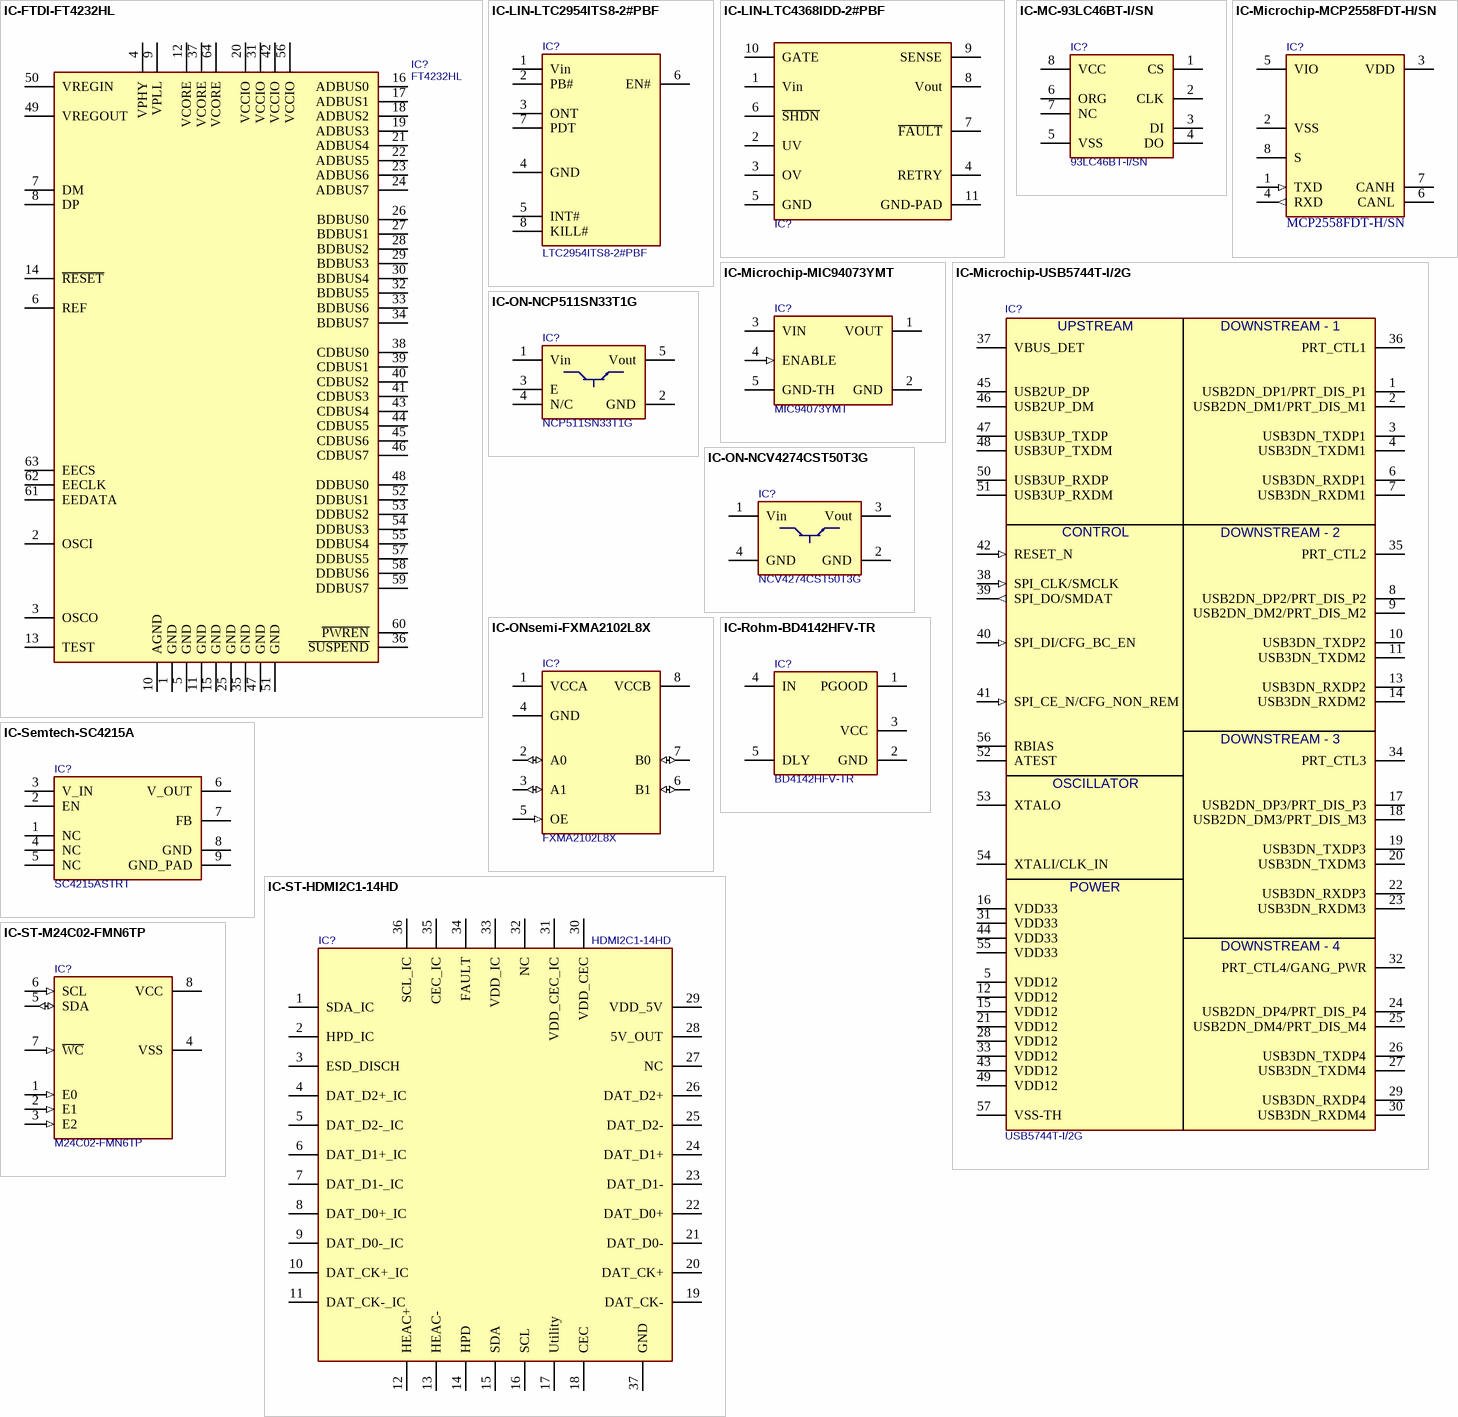
[diagram p5: symbols IC-FTDI-FT4232HL to IC-ST-M24C02-FMN6TP]

## IC-FTDI-FT4232HL
designator IC?, comment FT4232HL
Quad High Speed USB to Multipurpose UART/MPSSE; Manufacturer Name: FTDI; Note: Quad USB to UART; Manufacturer Part No.: FT4232HL
footprint LQFP-64
pins: 1 GND, 2 OSCI, 3 OSCO, 4 VPHY, 5 GND, 6 REF, 7 DM, 8 DP, 9 VPLL, 10 AGND, 11 GND, 12 VCORE, 13 TEST, 14 ~{RESET}, 15 GND, 16 ADBUS0, 17 ADBUS1, 18 ADBUS2, 19 ADBUS3, 20 VCCIO, 21 ADBUS4, 22 ADBUS5, 23 ADBUS6, 24 ADBUS7, 25 GND, 26 BDBUS0, 27 BDBUS1, 28 BDBUS2, 29 BDBUS3, 30 BDBUS4, 31 VCCIO, 32 BDBUS5, 33 BDBUS6, 34 BDBUS7, 35 GND, 36 ~{SUSPEND}, 37 VCORE, 38 CDBUS0, 39 CDBUS1, 40 CDBUS2, 41 CDBUS3, 42 VCCIO, 43 CDBUS4, 44 CDBUS5, 45 CDBUS6, 46 CDBUS7, 47 GND, 48 DDBUS0, 49 VREGOUT, 50 VREGIN, 51 GND, 52 DDBUS1, 53 DDBUS2, 54 DDBUS3, 55 DDBUS4, 56 VCCIO, 57 DDBUS5, 58 DDBUS6, 59 DDBUS7, 60 ~{PWREN}, 61 EEDATA, 62 EECLK, 63 EECS, 64 VCORE

## IC-LIN-LTC2954ITS8-2#PBF
designator IC?, comment LTC2954ITS8-2#PBF
Push Button On/Off Controller; Manufacturer Name: Linear; Package: *; Temperature Range: -40 +85; Manufacturer Part No.: LTC2954ITS8-2#PBF
footprint T_LINEAR_LTC2954CTS8-2#PBF
pins: 1 Vin, 2 PB#, 3 ONT, 4 GND, 5 INT#, 6 EN#, 7 PDT, 8 KILL#

## IC-LIN-LTC4368IDD-2#PBF
designator IC?, comment LTC4368IDD-2#PBF  (value not drawn)
Reverse Protection Controller with Bidirectional Circuit Breaker; Manufacturer Name: Linear; Package: *; Temperature Range: *; Manufacturer Part No.: LTC4368IDD-2#PBF
footprint IC-DFN50P300X300X75-10N (DFN, 11-Leads, Body 3.0x3.0mm, Pitch 0.50mm, IPC Medium Density)
pins: 1 Vin, 2 UV, 3 OV, 4 RETRY, 5 GND, 6 ~{SHDN}, 7 ~{FAULT}, 8 Vout, 9 SENSE, 10 GATE, 11 GND-PAD

## IC-MC-93LC46BT-I/SN
designator IC?, comment Manufacturer Part No.: 93LC46BT-I/SN  (hidden comment: 93LC46BT)
EEPROM, 1k, 64x16, serial, SOIC8; Manufacturer Name: Microchip
footprint SOIC127P600X173-8N
pins: 1 CS, 2 CLK, 3 DI, 4 DO, 5 VSS, 6 ORG, 7 NC, 8 VCC

## IC-Microchip-MCP2558FDT-H/SN
designator IC?, comment MCP2558FDT-H/SN
CAN FD Transceiver with Silent Mode; Manufacturer Name: Microchip; Temperature Range: -40C to +150C; Package: SOIC-8; Manufacturer Part No.: MCP2558FDT-H/SN
footprint IC-SOIC-8 (SOIC-8, 8-Leads, Body 6.19mmx5.00mm, Pitch 1.27mm, IPC Medium Density)
pins: 1 TXD (in), 2 VSS (power), 3 VDD (power), 4 RXD (out), 5 VIO, 6 CANL, 7 CANH, 8 S (power)

## IC-Microchip-MIC94073YMT
designator IC?, comment MIC94073YMT
High Side Load Switch, TDFN4 1.2 x 1.6; Manufacturer Name: Microchip; Package: TDFN-4; Manufacturer Part No.: MIC94073YMT
footprint T_TDFN0P120X160X60-4N (TDFN, 4-Leads, Body 1.6x1.2mm (max), Pitch 0.50mm, IPC Medium Density)
pins: 1 VOUT (power), 2 GND (power), 3 VIN (power), 4 ENABLE (in), 5 GND-TH (power)

## IC-Microchip-USB5744T-I/2G
designator IC?, comment USB5744T-I/2G
4-Port SS/HS USB 3.0 Controller Hub, VQFN-56, -40C to +85C; Manufacturer Name: Microchip; Temperature Range: -40C to +85C; Package: QFN-56, Leadless (7mm x 7mm); Manufacturer Part No.: USB5744T-I/2G
footprint IC-QFN40P700X700X100_HS-57N (QFN, 56-Leads, Body 7.00x7.00mm, Pitch 0.40mm, Thermal Pad 4.60x4.60mm, IPC Medium Density)
pins: 1 USB2DN_DP1/PRT_DIS_P1, 2 USB2DN_DM1/PRT_DIS_M1, 3 USB3DN_TXDP1, 4 USB3DN_TXDM1, 5 VDD12 (power), 6 USB3DN_RXDP1, 7 USB3DN_RXDM1, 8 USB2DN_DP2/PRT_DIS_P2, 9 USB2DN_DM2/PRT_DIS_M2, 10 USB3DN_TXDP2, 11 USB3DN_TXDM2, 12 VDD12 (power), 13 USB3DN_RXDP2, 14 USB3DN_RXDM2, 15 VDD12 (power), 16 VDD33 (power), 17 USB2DN_DP3/PRT_DIS_P3, 18 USB2DN_DM3/PRT_DIS_M3, 19 USB3DN_TXDP3, 20 USB3DN_TXDM3, 21 VDD12 (power), 22 USB3DN_RXDP3, 23 USB3DN_RXDM3, 24 USB2DN_DP4/PRT_DIS_P4, 25 USB2DN_DM4/PRT_DIS_M4, 26 USB3DN_TXDP4, 27 USB3DN_TXDM4, 28 VDD12 (power), 29 USB3DN_RXDP4, 30 USB3DN_RXDM4, 31 VDD33 (power), 32 PRT_CTL4/GANG_PWR, 33 VDD12 (power), 34 PRT_CTL3, 35 PRT_CTL2, 36 PRT_CTL1, 37 VBUS_DET, 38 SPI_CLK/SMCLK (in), 39 SPI_DO/SMDAT (out), 40 SPI_DI/CFG_BC_EN (in), 41 SPI_CE_N/CFG_NON_REM (in), 42 RESET_N (in), 43 VDD12 (power), 44 VDD33 (power), 45 USB2UP_DP, 46 USB2UP_DM, 47 USB3UP_TXDP, 48 USB3UP_TXDM, 49 VDD12 (power), 50 USB3UP_RXDP, 51 USB3UP_RXDM, 52 ATEST, 53 XTALO, 54 XTALI/CLK_IN, 55 VDD33 (power), 56 RBIAS, 57 VSS-TH (power)
text: UPSTREAM; DOWNSTREAM - 1; CONTROL; DOWNSTREAM - 2; DOWNSTREAM - 3; OSCILLATOR; POWER; DOWNSTREAM - 4

## IC-ON-NCP511SN33T1G
designator IC?, comment NCP511SN33T1G
NCP511SN33T1G LDO Regulator; Manufacturer Name: ON Semiconductor; Manufacturer Part No.: NCP511SN33T1G
footprint SOT95P279X142-5N
pins: 1 Vin, 2 GND, 3 E, 4 N/C, 5 Vout

## IC-ON-NCV4274CST50T3G
designator IC?, comment NCV4274CST50T3G
LDO regulator, Vout = 5V, Iout(max) = 0.4A, Vin = 5.5V to 40V, SOT-223; Manufacturer Name: ON Semiconductor; Manufacturer Part No.: NCV4274CST50T3G
footprint T_ON_NCV4264-2ST50T3G (SO4)
pins: 1 Vin, 2 GND, 3 Vout, 4 GND

## IC-ONsemi-FXMA2102L8X
designator IC?, comment FXMA2102L8X
Voltage Level Translator for I2C Applications; Manufacturer Name: ONSemi; Manufacturer Part No.: FXMA2102L8X
footprint IC-MicroPak50P160X2160X55-8N (MicroPak, 8-Leads, Body 1.60x1.60mm, Pitch 0.5mm, IPC Medium Density)
pins: 1 VCCA (power), 2 A0 (io), 3 A1 (io), 4 GND (power), 5 OE (in), 6 B1 (io), 7 B0 (io), 8 VCCB (power)

## IC-Rohm-BD4142HFV-TR
designator IC?, comment BD4142HFV-TR
Supervisor Open Drain or Open Collector 1 Channel HVSOF5; Manufacturer Name: Rohm; Manufacturer Part No.: BD4142HFV-TR
footprint IC-Rohm-BD4142HFV-TR (SOTFL, 5-Leads, Body 1.60x1.60mm, Pitch 0.50mm, IPC Medium Density)
pins: 1 PGOOD (power), 2 GND (power), 3 VCC (power), 4 IN (power), 5 DLY (power)

## IC-Semtech-SC4215A
designator IC?  Manufacturer Part No.: SC4215ASTRT  (hidden comment: IC-Semtech-SC4215A)
LDO TO 2A; Manufacturer Name: Semtech; Package: *; Temperature Range: *
footprint IC-SOIC127P650X175_HS-8N (SOIC, 8-Leads, Body 5.0x4.0mm (max), Pitch 1.27mm, IPC Medium Density)
pins: 1 NC, 2 EN, 3 V_IN, 4 NC, 5 NC, 6 V_OUT, 7 FB, 8 GND, 9 GND_PAD

## IC-ST-HDMI2C1-14HD
designator IC?, comment HDMI2C1-14HD
ESD protection and signal conditioning for HDMI™ 2.0 source interface; Manufacturer Name: STMicroelectronics; Manufacturer Part No.: HDMI2C1-14HD
footprint QFN50P350X650X95_HS-37N (QFN, 36-Leads, Body 3.50x6.50mm, Pitch 0.50mm, Thermal Pad 2.30x5.30mm, IPC Medium Density)
pins: 1 SDA_IC, 2 HPD_IC, 3 ESD_DISCH, 4 DAT_D2+_IC, 5 DAT_D2-_IC, 6 DAT_D1+_IC, 7 DAT_D1-_IC, 8 DAT_D0+_IC, 9 DAT_D0-_IC, 10 DAT_CK+_IC, 11 DAT_CK-_IC, 12 HEAC+, 13 HEAC-, 14 HPD, 15 SDA, 16 SCL, 17 Utility, 18 CEC, 19 DAT_CK-, 20 DAT_CK+, 21 DAT_D0-, 22 DAT_D0+, 23 DAT_D1-, 24 DAT_D1+, 25 DAT_D2-, 26 DAT_D2+, 27 NC, 28 5V_OUT (power), 29 VDD_5V (power), 30 VDD_CEC, 31 VDD_CEC_IC, 32 NC, 33 VDD_IC (power), 34 FAULT, 35 CEC_IC, 36 SCL_IC, 37 GND (power)

## IC-ST-M24C02-FMN6TP
designator IC?, comment M24C02-FMN6TP
EEPROM, Serial I²C bus , SOIC-8, -40C to +85C; Manufacturer Name: ST; Temperature Range: -40C to +85C; Package: SOIC-8 (3.9mm x4.9 mm); Manufacturer Part No.: M24C02-FMN6TP
footprint IC-SOIC-8N (SOCI-8/SO8N – 3.9x4.9 mm, 8 lead)
pins: 1 E0 (in), 2 E1 (in), 3 E2 (in), 4 VSS (power), 5 SDA (io), 6 SCL (in), 7 ~{WC} (in), 8 VCC (power)

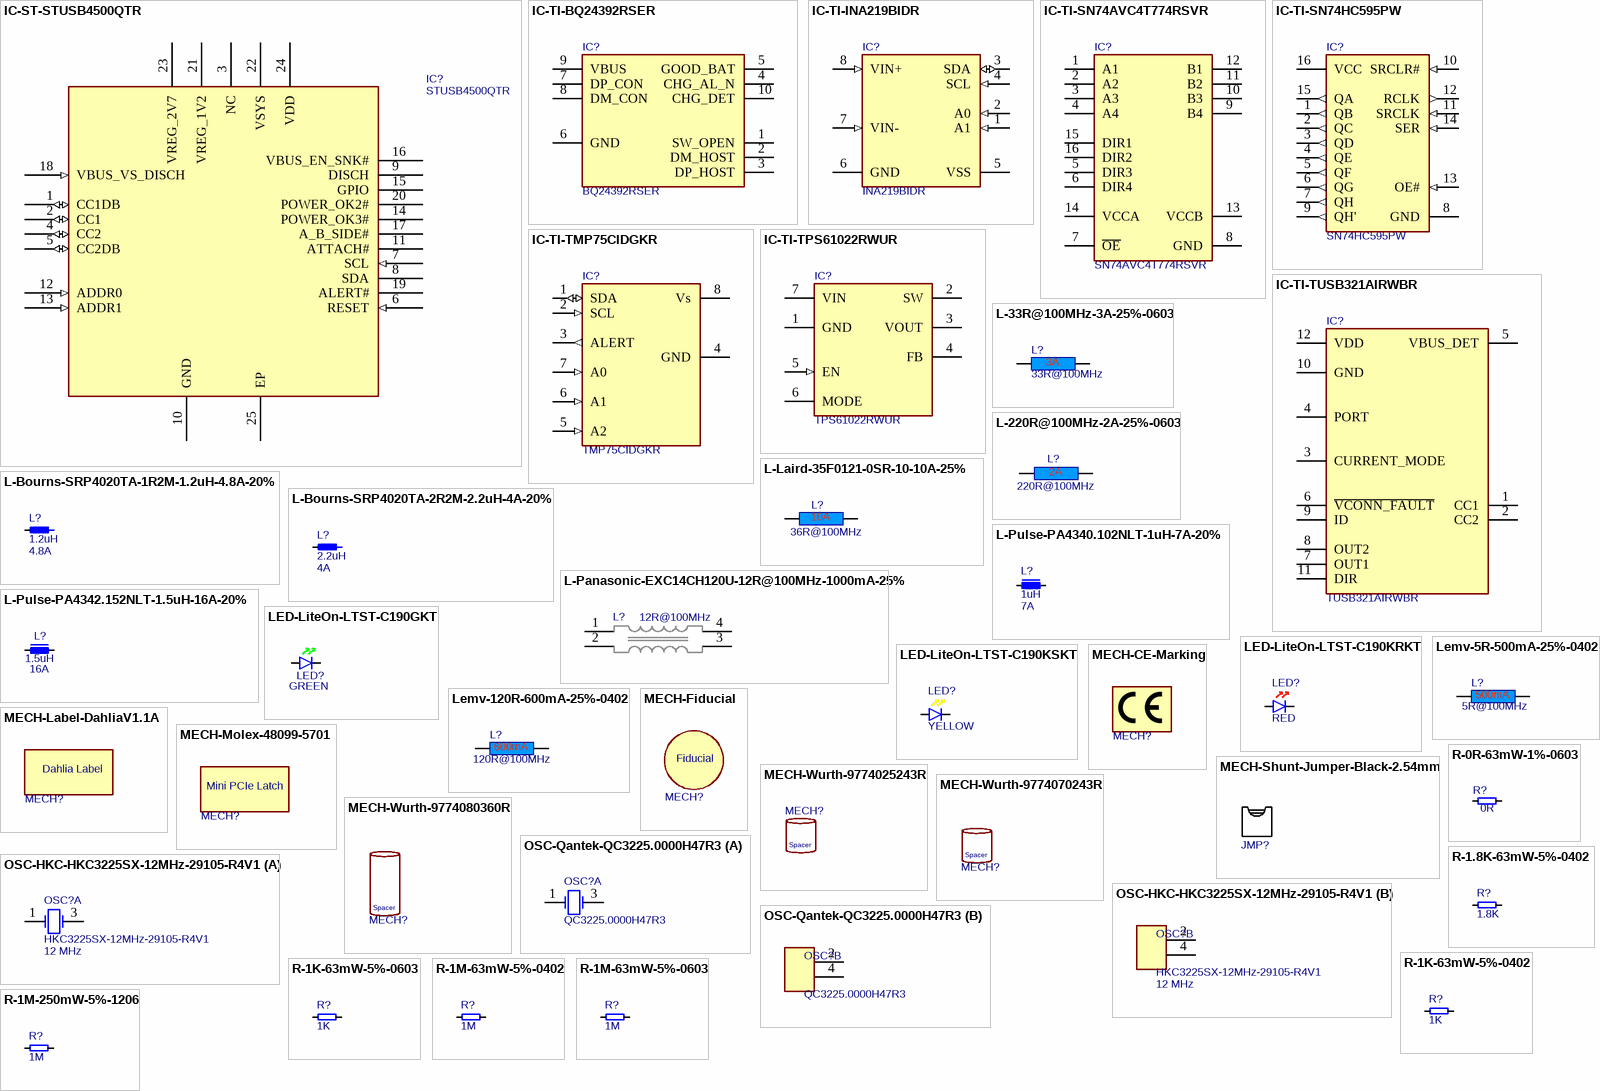
[diagram p6: symbols IC-ST-STUSB4500QTR to R-1M-250mW-5%-1206]

## IC-ST-STUSB4500QTR
designator IC?, comment STUSB4500QTR
Standalone USB PD sink controller with short-to-VBUS protections; Manufacturer Name: ST; Temperature Range: -40C to +105C; Package: 24-QFN-EP (4x4); Manufacturer Part No.: STUSB4500QTR
footprint T_STUSB4500QTR (PQFN, 24-Leads, Body 4.00x4.00mm, Pitch 0.50mm, Thermal Pad 2.70x2.70mm, IPC Medium Density)
pins: 1 CC1DB (io), 2 CC1 (io), 3 NC, 4 CC2 (io), 5 CC2DB (io), 6 RESET (in), 7 SCL (in), 8 SDA (oc), 9 DISCH (oc), 10 GND (power), 11 ATTACH# (oc), 12 ADDR0 (in), 13 ADDR1 (in), 14 POWER_OK3# (oc), 15 GPIO (oc), 16 VBUS_EN_SNK# (oc), 17 A_B_SIDE# (oc), 18 VBUS_VS_DISCH (in), 19 ALERT# (oc), 20 POWER_OK2# (oc), 21 VREG_1V2 (power), 22 VSYS (power), 23 VREG_2V7 (power), 24 VDD (power), 25 EP (power)

## IC-TI-BQ24392RSER
designator IC?, comment BQ24392RSER
USB Charger Detection; Manufacturer Name: Texas Instruments; Manufacturer Part No.: BQ24392RSER
footprint IC-TI-BQ24392RSER (USB High Speed Switch)
pins: 1 SW_OPEN, 2 DM_HOST, 3 DP_HOST, 4 CHG_AL_N, 5 GOOD_BAT, 6 GND, 7 DP_CON, 8 DM_CON, 9 VBUS, 10 CHG_DET

## IC-TI-INA219BIDR
designator IC?, comment Manufacturer Part No.: INA219BIDR  (hidden comment: INA219)
CURRENT/POWER MONITOR with I2C Interface; Manufacturer Name: Texas Instruments
footprint SOIC127P600X173-8N
pins: 1 A1 (in), 2 A0 (in), 3 SDA (io), 4 SCL (in), 5 VSS (power), 6 GND (power), 7 VIN- (in), 8 VIN+ (in)

## IC-TI-SN74AVC4T774RSVR
designator IC?, comment SN74AVC4T774RSVR
4 Bit Bidirectional l Voltage Level Translator, Configurable Direction, UFQFN-16 package; Manufacturer Name: Texas Instruments; Manufacturer Part No.: SN74AVC4T774RSVR
footprint IC-UQFN40P180X210X55-16N (PQFN, 16-Leads, Body 1.80x2.10mm, Pitch 0.40mm, IPC Medium Density)
pins: 1 A1, 2 A2, 3 A3, 4 A4, 5 DIR3, 6 DIR4, 7 ~{OE}, 8 GND (power), 9 B4, 10 B3, 11 B2, 12 B1, 13 VCCB (power), 14 VCCA (power), 15 DIR1, 16 DIR2

## IC-TI-SN74HC595PW
designator IC?, comment SN74HC595PW
8-Bit Shift Registers With 3-State Output Registers; Manufacturer Name: Texas Instruments; Manufacturer Part No.: SN74HC595PW
footprint IC_TSOP65P640X120-16N (TSOP, 16-Leads, Body 5.00x4.40mm, Pitch 0.65mm, IPC Medium Density)
pins: 1 QB (out), 2 QC (out), 3 QD (out), 4 QE (out), 5 QF (out), 6 QG (out), 7 QH (out), 8 GND (power), 9 QH' (out), 10 SRCLR# (in), 11 SRCLK (in), 12 RCLK (out), 13 OE# (in), 14 SER (in), 15 QA (out), 16 VCC (power)

## IC-TI-TMP75CIDGKR
designator IC?, comment TMP75CIDGKR
Temperature Sensor Digital, Local -55°C ~ 125°C 11 b 8-VSSOP; Manufacturer Name: Texas Instruments; Manufacturer Part No.: TMP75CIDGKR
footprint IC-TSOP65P490X110-8N (TSOP, 8-Leads, Body 3.00x3.00mm, Pitch 0.65mm, IPC Medium Density)
pins: 1 SDA (io), 2 SCL (in), 3 ALERT (out), 4 GND (power), 5 A2 (in), 6 A1 (in), 7 A0 (in), 8 Vs (power)

## IC-TI-TPS61022RWUR
designator IC?, comment TPS61022RWUR
Integrated Boost Regulator; Manufacturer Name: Texas Instruments; Manufacturer Part No.: TPS61022RWUR
footprint T_TI_TPS61022RWUR
pins: 1 GND (power), 2 SW (power), 3 VOUT (power), 4 FB (power), 5 EN (in), 6 MODE (power), 7 VIN (power)

## IC-TI-TUSB321AIRWBR
designator IC?, comment TUSB321AIRWBR
USB Type-C Configuration Channel Logic and Port Control with VCON; Manufacturer Name: Texas Instruments; Manufacturer Part No.: TUSB321AIRWBR
footprint IC-TI-TUSB321AIRWBR
pins: 1 CC1 (power), 2 CC2 (power), 3 CURRENT_MODE (power), 4 PORT (power), 5 VBUS_DET (power), 6 ~{VCONN_FAULT} (power), 7 OUT1 (power), 8 OUT2 (power), 9 ID (power), 10 GND (power), 11 DIR (power), 12 VDD (power)

## L-33R@100MHz-3A-25%-0603
designator L?, comment 33R@100MHz
33R@100MHz 3A EMI FILTER; Tolerance: 25%; Rating: 3A; Value: 33R@100MHz
footprint INDC1608X95N
pins: 1, 2

## L-220R@100MHz-2A-25%-0603
designator L?, comment 220R@100MHz
220R@100MHz 2A EMI FILTER; Tolerance: 25%; Rating: 2A; Value: 220R@100MHz
footprint INDC1608X95N
pins: 1, 2

## L-Bourns-SRP4020TA-1R2M-1.2uH-4.8A-20%
designator L?, comment Rating: 4.8A  (hidden comment: 1.2uH)
1.2µH Shielded Wirewound Inductor 4.8A 30mOhm; Manufacturer Name: Bourns; Manufacturer Part No.: SRP4020TA-1R2M; Tolerance: 20%; I (saturation): 7.8A; I (RMS): 4.8A; Value: 1.2uH; ClassName: Power_Poly
footprint IND-BOURNS-SRP4020TA (Inductor shielded, 4.45mm x 4.06mm (Bourns, SSRP4020TA))
pins: 1, 2

## L-Bourns-SRP4020TA-2R2M-2.2uH-4A-20%
designator L?, comment Rating: 4A  (hidden comment: 2.2uH)
2.2µH Shielded Wirewound Inductor 4A 61mOhm Max 2-SMD; Manufacturer Name: Bourns; Manufacturer Part No.: SRP4020TA-2R2M; Tolerance: 20%; I (saturation): 6A; I (RMS): 4A; Value: 2.2uH; ClassName: Power_Poly
footprint IND-BOURNS-SRP4020TA (Inductor shielded, 4.45mm x 4.06mm (Bourns, SSRP4020TA))
pins: 1, 2

## L-Laird-35F0121-0SR-10-10A-25%
designator L?, comment 36R@100MHz
Power Supply FB 10A; Tolerance: 25%; Rating: 10A; ClassName: Power_Poly; Value: 36R@100MHz
footprint T_Laird_35F0121-0SR-10 (Power supply FB 10A)
pins: 1, 2

## L-Panasonic-EXC14CH120U-12R@100MHz-1000mA-25%
designator L?, comment 12R@100MHz
Common Mode Choke High Speed 12R 100mA; Manufacturer Name: Panasonic; Manufacturer Part No.: EXC14CH120U; Tolerance: 25%; Rating: 100mA; Value: 12R@100MHz
footprint T_Panasonic_EXC14CH120U
pins: 1, 2, 3, 4

## L-Pulse-PA4340.102NLT-1uH-7A-20%
designator L?, comment Rating: 7A  (hidden comment: 1uH)
Inductance 1uH, 20%, Irms=7A, Isat=11A, DCR=14 mOhm; Manufacturer Name: Pulse; Manufacturer Part No.: PA4340.102NLT; I (saturation): 11A; Tolerance: 20%; I (RMS): 7A; Value: 1uH
footprint T_INDM_PA4340
pins: 1, 2

## L-Pulse-PA4342.152NLT-1.5uH-16A-20%
designator L?, comment Rating: 16A  (hidden comment: 1.5uH)
Inductance 1.5uH, 20%, Irms=16A, Isat=33A, DCR=4.6 mOhm; Manufacturer Name: Pulse; Manufacturer Part No.: PA4342.152NLT; I (saturation): 33A; Tolerance: 20%; I (RMS): 16A; Value: 1.5uH; ClassName: Power_Poly
footprint T_INDM110100 (Inductor shielded, 11mm x 10mm (Bourns, SRP1038A; Vishay, IHLP4040DZ-8A))
pins: 1, 2

## LED-LiteOn-LTST-C190GKT
designator LED?, comment Color: GREEN  (hidden comment: LTST-C190GKT)
LED green Lite-ON LTST-C190GKT; Manufacturer Name: Lite-ON; Manufacturer Part No.: LTST-C190GKT
footprint T_Liteon_LTST-C190GKT
pins: A, K

## LED-LiteOn-LTST-C190KRKT
designator LED?, comment Color: RED  (hidden comment: LTST-C190KRKT)
LED red, Lite-On LTST-C190KRKT; Manufacturer Part No.: LTST-C190KRKT; Manufacturer Name: Lite-On
footprint T_Liteon_LTST-C190KRKT
pins: A, K

## LED-LiteOn-LTST-C190KSKT
designator LED?, comment Color: YELLOW  (hidden comment: LTST-C190KSKT)
LED yellow Lite-On LTST-C190KSKT; Manufacturer Name: Lite-On; Manufacturer Part No.: LTST-C190KSKT
footprint T_Liteon_LTST-C190KSKT
pins: A, K

## Lemv-5R-500mA-25%-0402
designator L?, comment 5R@100MHz
5R@100MHz 500mA EMI FILTER; Manufacturer Part No.: BLM15BB050SN1D; Manufacturer: Murata; Tolerance: 25%; Rating: 500mA; Value: 5R@100MHz
footprint INDC1005X60N (Ferrite Bead  0402 (1005 metric), max height 0.55mm)
pins: 1, 2

## Lemv-120R-600mA-25%-0402
designator L?, comment 120R@100MHz
120R@100MHz 600mA EMI FILTER; Tolerance: 25%; Rating: 600mA; Value: 120R@100MHz
footprint INDC1005X60N (Ferrite Bead  0402 (1005 metric), max height 0.55mm)
pins: 1, 2

## MECH-CE-Marking
designator MECH?  (value not drawn)  (no BOM)
CE Marking
footprint T_CE_Marking (Silkscreen CE Marking)

## MECH-Fiducial
designator MECH?  (value not drawn)  (no BOM)
Fiducial
footprint T_Fiducial (Fiducial)

## MECH-Label-DahliaV1.1A
designator MECH?, comment Label-DahliaV1.1A  (value not drawn)  (mechanical)
Label Sticker Dahlia V1.1A
text: Dahlia Label

## MECH-Molex-48099-5701
designator MECH?, comment MECH-Mini-PCIe Latch  (value not drawn)
Mini-PCIe Latch; Manufacturer Name: Molex; Manufacturer Part No.: 48099-5701
footprint MECH-Molex-48099-5701 (Mini PCI-E Latch - 3D model only)
text: Mini PCIe Latch

## MECH-Shunt-Jumper-Black-2.54mm
designator JMP?, comment Shunt Jumper  (value not drawn)  (mechanical)
Manufacturer Name: JVE; Manufacturer Part No.: S1002-OPS60-01G

## MECH-Wurth-9774025243R
designator MECH?, comment Wurth-9774025243R  (value not drawn)
Round Standoff M2x0.4 (2.50mm); Manufacturer Name: Wurth; Manufacturer Part No.: 9774025243R
footprint MECH-Wurth-9774025243R (Round Standoff Threaded M2x0.4 Steel 0.098" (2.50mm))
text: Spacer

## MECH-Wurth-9774070243R
designator MECH?, comment Wurth-9774070243R  (value not drawn)
Round Standoff M2x0.4 (7.00mm); Manufacturer Name: Wurth; Manufacturer Part No.: 9774070243R
footprint MECH-Wurth-9774070243R
text: Spacer

## MECH-Wurth-9774080360R
designator MECH?, comment Wurth-9774080360R  (value not drawn)
Round Standoff M3x0.5 (8.00mm); Manufacturer Name: Wurth; Manufacturer Part No.: 9774080360R
footprint MECH-Wurth-9774080360R (Round Standoff Threaded M3x0.5 Steel 0.315" (8.00mm))
text: Spacer

## OSC-HKC-HKC3225SX-12MHz-29105-R4V1
designator OSC?, comment HKC3225SX-12MHz-29105-R4V1  value 12 MHz
12MHz Ceramic SMD Crystal, Hong Kong X’tals Limited, HKC3225SX-12MHz-29105-R4V1, 30ppm, -40C to +85C; Tolerance: +/- 30 ppm; Manufacturer Name: Hong Kong X’tals Limited; Package: 3.2mm X 2.5mm; Temperature Range: -40C to +85C; Manufacturer Part No.: HKC3225SX-12MHz-29105-R4V1
footprint OSC-SMD-3.2mmx2.5mm (Oscillator SMD, 3.2mmx2.5mmx0.8mm)
part A pins: 1 OSC1, 3 OSC2
part B pins: 2 OSC2, 4 OSC3

## OSC-Qantek-QC3225.0000H47R3
designator OSC?, comment QC3225.0000H47R3
25MHz Crystal Oscillator, Qantek QC3225.0000H47R3, 20ppm, -40C to +85C, 10pF; Tolerance: +/- 20 ppm; Manufacturer Name: QANTEK; Package: 3.2mm X 2.5mm; Temperature Range: -40C to +85C; Value: 25 MHz; Manufacturer Part No.: QC3225.0000H47R3
footprint OSC-SMD-3.2mmx2.5mm (Oscillator SMD, 3.2mmx2.5mmx0.8mm)
part A pins: 1 OSC1, 3 OSC2
part B pins: 2 OSC2, 4 OSC3

## R-0R-63mW-1%-0603
designator R?, comment 0R
Resistor 0 ohm 63mW 1% 0603; Rating: 63mW; Tolerance: 1%; Value: 0R
footprint T_RESC0603X30N
pins: 1, 2

## R-1.8K-63mW-5%-0402
designator R?, comment 1.8K
Resistor 1.8 Kohm 63mW 5% 0402; Rating: 63mW; Tolerance: 5%; Value: 1.8K
footprint RESC1005X40N
pins: 1, 2

## R-1K-63mW-5%-0402
designator R?, comment 1K
Resistor 1 Kohm 63mW 5% 0402; Rating: 63mW; Tolerance: 5%; Value: 1K
footprint RESC1005X40N
pins: 1, 2

## R-1K-63mW-5%-0603
designator R?, comment 1K
Resistor 1 Kohm 63mW 5% 0603; Rating: 63mW; Tolerance: 5%; Value: 1K
footprint T_RESC0603X30N
pins: 1, 2

## R-1M-63mW-5%-0402
designator R?, comment 1M
Resistor 1 Mohm 63mW 5% 0402; Rating: 63mW; Tolerance: 5%; Value: 1M
footprint RESC1005X40N
pins: 1, 2

## R-1M-63mW-5%-0603
designator R?, comment value 1M  (hidden comment: 1MR)
Resistor 1Mohm 63mW 5% 0603; Rating: 63mW; Tolerance: 5%
footprint T_RESC0603X30N
pins: 1, 2

## R-1M-250mW-5%-1206
designator R?, comment 1M
Resistor 1 Mohm 250mW 5% 1206; Rating: 250mW; Tolerance: 5%; Value: 1M
footprint RESC3216X75N
pins: 1, 2

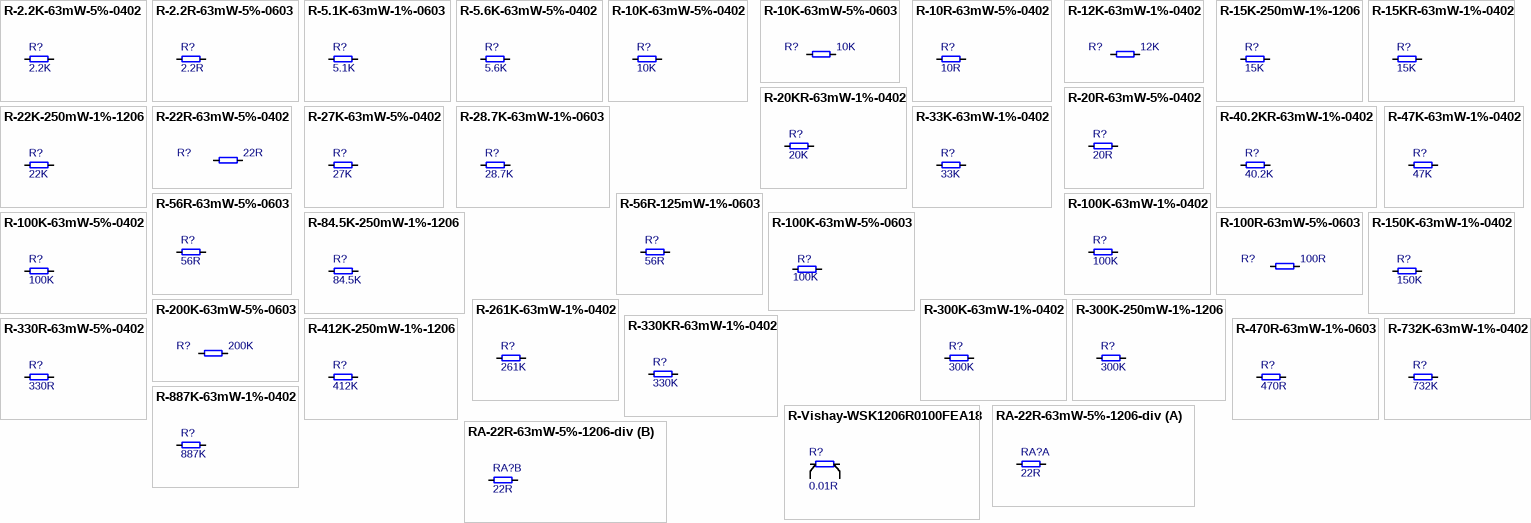
[diagram p7: symbols R-2.2K-63mW-5%-0402 to RA-22R-63mW-5%-1206-div]

## R-2.2K-63mW-5%-0402
designator R?, comment 2.2K
Resistor 2.2 Kohm 63mW 5% 0402; Value: 2.2KR; Rating: 63mW; Tolerance: 5%
footprint RESC1005X40N
pins: 1, 2

## R-2.2R-63mW-5%-0603
designator R?, comment 2.2R
Resistor 2.2 ohm 63mW 5% 0603; Rating: 63mW; Tolerance: 5%; Value: 2.2R
footprint T_RESC0603X30N
pins: 1, 2

## R-5.1K-63mW-1%-0603
designator R?, comment 5.1K
Resistor 5.1 Kohm 63mW 1% 0603; Rating: 63mW; Tolerance: 1%; Value: 5.1K
footprint T_RESC0603X30N
pins: 1, 2

## R-5.6K-63mW-5%-0402
designator R?, comment 5.6K
Resistor 5.6 Kohm 63mW 5% 0402; Value: 5.6KR; Rating: 63mW; Tolerance: 5%
footprint RESC1005X40N
pins: 1, 2

## R-10K-63mW-5%-0402
designator R?, comment 10K
Resistor 10 Kohm 63mW 5% 0402; Rating: 63mW; Tolerance: 5%; Value: 10K
footprint RESC1005X40N
pins: 1, 2

## R-10K-63mW-5%-0603
designator R?, comment 10K
Resistor 10 Kohm 63mW 5% 0603; Rating: 63mW; Tolerance: 5%; Value: 10K
footprint T_RESC0603X30N
pins: 1, 2

## R-10R-63mW-5%-0402
designator R?, comment 10R
Resistor 10 ohm 63mW 5% 0402; Rating: 63mW; Tolerance: 5%; Value: 10R
footprint RESC1005X40N
pins: 1, 2

## R-12K-63mW-1%-0402
designator R?, comment 12K
Resistor 12 Kohm 63mW 1% 0402; Rating: 63mW; Tolerance: 1%; Value: 12K
footprint RESC1005X40N
pins: 1, 2

## R-15K-250mW-1%-1206
designator R?, comment 15K
Resistor 15 Kohm 250mW 1% 1206; Rating: 250mW; Tolerance: 1%; Value: 15K
footprint RESC3216X75N
pins: 1, 2

## R-15KR-63mW-1%-0402
designator R?, comment 15K
Resistor 15 Kohm 63mW 1% 0402; Value: 15KR; Rating: 63mW; Tolerance: 1%
footprint RESC1005X40N
pins: 1, 2

## R-20KR-63mW-1%-0402
designator R?, comment 20K
Resistor 20 Kohm 63mW 1% 0402; Value: 20KR; Rating: 63mW; Tolerance: 1%
footprint RESC1005X40N
pins: 1, 2

## R-20R-63mW-5%-0402
designator R?, comment 20R
Resistor 20 ohm 63mW 5% 0402; Rating: 63mW; Tolerance: 5%; Value: 20R
footprint RESC1005X40N
pins: 1, 2

## R-22K-250mW-1%-1206
designator R?, comment 22K
Resistor 22 Kohm 250mW 1% 1206; Rating: 250mW; Tolerance: 1%; Value: 22K
footprint RESC3216X75N
pins: 1, 2

## R-22R-63mW-5%-0402
designator R?, comment 22R
Resistor 22 ohm 63mW 5% 0402; Rating: 63mW; Tolerance: 5%; Value: 22R
footprint RESC1005X40N
pins: 1, 2

## R-27K-63mW-5%-0402
designator R?, comment 27K
Resistor 27 Kohm 63mW 5% 0402; Rating: 63mW; Tolerance: 5%; Value: 27K
footprint RESC1005X40N
pins: 1, 2

## R-28.7K-63mW-1%-0603
designator R?, comment 28.7K
Resistor 28.7 Kohm 63mW 1% 0603; Rating: 63mW; Tolerance: 1%; Value: 28.7K
footprint T_RESC0603X30N
pins: 1, 2

## R-33K-63mW-1%-0402
designator R?, comment 33K
Resistor 33 Kohm 63mW 1% 0402; Rating: 63mW; Tolerance: 1%; Value: 33K
footprint RESC1005X40N
pins: 1, 2

## R-40.2KR-63mW-1%-0402
designator R?, comment 40.2K
Resistor 40.2 Kohm 63mW 1% 0402; Value: 40.2KR; Rating: 63mW; Tolerance: 1%
footprint RESC1005X40N
pins: 1, 2

## R-47K-63mW-1%-0402
designator R?, comment 47K
Resistor 47 Kohm 63mW 1% 0402; Rating: 63mW; Tolerance: 1%; Value: 47K
footprint RESC1005X40N
pins: 1, 2

## R-56R-63mW-5%-0603
designator R?, comment 56R
Resistor 56 ohm 63mW 5% 0603; Rating: 63mW; Tolerance: 5%; Value: 56R
footprint T_RESC0603X30N
pins: 1, 2

## R-56R-125mW-1%-0603
designator R?, comment 56R
Resistor 56 ohm 125mW 1% 0603; Rating: 125mW; Tolerance: 1%; Value: 56R
footprint T_RESC0603X30N
pins: 1, 2

## R-84.5K-250mW-1%-1206
designator R?, comment 84.5K
Resistor 84.5 Kohm 250mW 1% 1206; Rating: 250mW; Tolerance: 1%; Value: 84.5K
footprint RESC3216X75N
pins: 1, 2

## R-100K-63mW-1%-0402
designator R?, comment 100K
Resistor 100 Kohm 63mW 1% 0402; Rating: 63mW; Tolerance: 1%; Value: 100K
footprint RESC1005X40N
pins: 1, 2

## R-100K-63mW-5%-0402
designator R?, comment 100K
Resistor 100 Kohm 63mW 5% 0402; Rating: 63mW; Tolerance: 5%; Value: 100K
footprint RESC1005X40N
pins: 1, 2

## R-100K-63mW-5%-0603
designator R?, comment 100K
Resistor 100 Kohm 63mW 5% 0603; Rating: 63mW; Tolerance: 5%; Value: 100K
footprint T_RESC0603X30N
pins: 1, 2

## R-100R-63mW-5%-0603
designator R?, comment 100R
Resistor 100 ohm 63mW 5% 0603; Rating: 63mW; Tolerance: 5%; Value: 100R
footprint T_RESC0603X30N
pins: 1, 2

## R-150K-63mW-1%-0402
designator R?, comment 150K
Resistor 150 Kohm 63mW 1% 0402; Value: 150KR; Rating: 63mW; Tolerance: 1%
footprint RESC1005X40N
pins: 1, 2

## R-200K-63mW-5%-0603
designator R?, comment 200K
Resistor 200 Kohm 63mW 5% 0603; Rating: 63mW; Tolerance: 5%; Value: 200K
footprint T_RESC0603X30N
pins: 1, 2

## R-261K-63mW-1%-0402
designator R?, comment 261K
Resistor 261 Kohm 63mW 1% 0402; Rating: 63mW; Tolerance: 1%; Value: 261K
footprint RESC1005X40N
pins: 1, 2

## R-300K-63mW-1%-0402
designator R?, comment 300K
Resistor 300 Kohm 63mW 1% 0402; Rating: 63mW; Tolerance: 1%; Value: 300K
footprint RESC1005X40N
pins: 1, 2

## R-300K-250mW-1%-1206
designator R?, comment 300K
Resistor 300 Kohm 250mW 1% 1206; Rating: 250mW; Tolerance: 1%; Value: 300K
footprint RESC3216X75N
pins: 1, 2

## R-330KR-63mW-1%-0402
designator R?, comment 330K
Resistor 330 Kohm 63mW 1% 0402; Value: 330KR; Rating: 63mW; Tolerance: 1%
footprint RESC1005X40N
pins: 1, 2

## R-330R-63mW-5%-0402
designator R?, comment 330R
Resistor 330 ohm 63mW 5% 0402; Rating: 63mW; Tolerance: 5%; Value: 330R
footprint RESC1005X40N
pins: 1, 2

## R-412K-250mW-1%-1206
designator R?, comment 412K
Resistor 412 Kohm 250mW 1% 1206; Rating: 250mW; Tolerance: 1%; Value: 412K
footprint RESC3216X75N
pins: 1, 2

## R-470R-63mW-1%-0603
designator R?, comment 470R
Resistor 470 Ohm 63mW 1% 0603; Rating: 63mW; Tolerance: 1%; Value: 470R
footprint T_RESC0603X30N
pins: 1, 2

## R-732K-63mW-1%-0402
designator R?, comment 732K
Resistor 732 Kohm 63mW 1% 0402; Rating: 63mW; Tolerance: 1%; Value: 732K
footprint RESC1005X40N
pins: 1, 2

## R-887K-63mW-1%-0402
designator R?, comment 887K
Resistor 887 Kohm 63mW 1% 0402; Rating: 63mW; Tolerance: 1%; Value: 887K
footprint RESC1005X40N
pins: 1, 2

## R-Vishay-WSK1206R0100FEA18
designator R?, comment 0.01R
10 mOhms ±1% 0.5W,Chip Resistor 1206 (3216 Metric) Current Sense, Moisture Resistant, Pulse Withstanding Metal Element; Manufacturer Name: Vishay; Manufacturer Part No.: WSK1206R0100FEA18; Rating: 0.5W; Tolerance: 1%; Value: 0.01R; ClassName: Power_Poly
footprint RESWSK1206 (4-terminal resistor 1206 (3216 metric))
pins: 1, 2, 3, 4

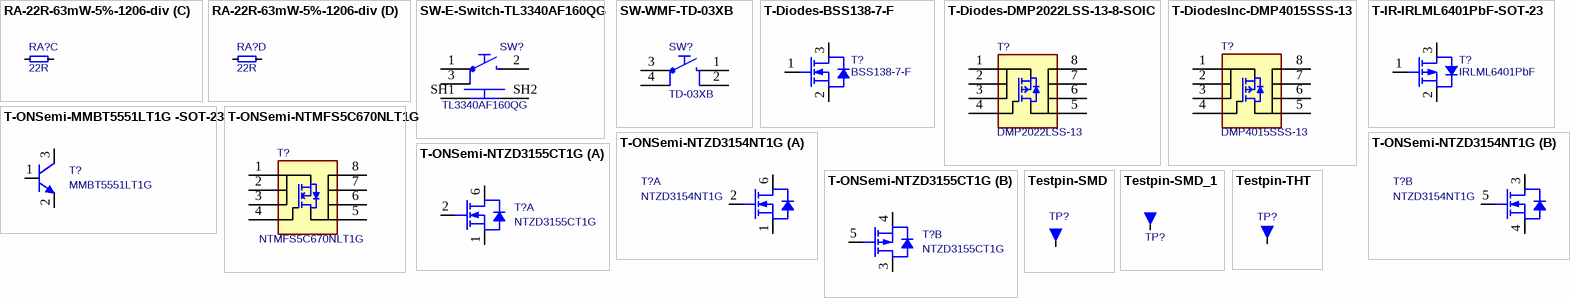
[diagram p8: symbols RA-22R-63mW-5%-1206-div to Testpin-THT]

## RA-22R-63mW-5%-1206-div
designator RA?, comment 22R
Resistor Array 22 R 63mW 5% 1206; Tolerance: 5%; Power Dissipation: 63mW; Value: 22R
footprint T_Resistor_Array_X4 (Resistor Array 0.8mm)
part A pins: 1, 5
part B pins: 2, 6
part C pins: 3, 7
part D pins: 4, 8

## SW-E-Switch-TL3340AF160QG
designator SW?, comment TL3340AF160QG
SWITCH TACT SUB MINI 160GF SMD Right Angle; Manufacturer Name: E-Switch; Manufacturer Part No.: TL3340AF160QG
footprint T_E-SWITCH- TL3340AF160QG (Footprint not found)
pins: 1, 2, 3, SH1, SH2

## SW-WMF-TD-03XB
designator SW?, comment TD-03XB
Push Button; Manufacturer Name: WMF; Manufacturer Part No.: TD-03XB-Z; Rating: 50mA
footprint T_WMF_TD-03XB (Push Button)
pins: 1, 2, 3, 4

## T-Diodes-BSS138-7-F
designator T?, comment BSS138-7-F
N-channel MOSFET, BSS138-7-F; Manufacturer Name: Diodes; Manufacturer Part No.: BSS138-7-F
footprint SOT95P237X112-3N (SOT23, 3-Leads, Body 3.0x2.6mm (max), Pitch 0.95mm, IPC Medium Density)
pins: 1 G, 2 S, 3 D

## T-Diodes-DMP2022LSS-13-8-SOIC
designator T?, comment DMP2022LSS-13
p-channel MOSFET, DMP2022LSS-13; Manufacturer Name: DIODES; Manufacturer Part No.: DMP2022LSS-13; ClassName: Power_Poly
footprint SOIC127P600X173-8N
pins: 1 S, 2 S, 3 S, 4 G, 5 D, 6 D, 7 D, 8 D

## T-DiodesInc-DMP4015SSS-13
designator T?, comment DMP4015SSS-13
P-channel MOSFET, DMP4015SSS-13; Manufacturer Name: Diodes Inc; Manufacturer Part No.: DMP4015SSS-13; ClassName: Power_Poly
footprint SOIC127P600X173-8N
pins: 1 S, 2 S, 3 S, 4 G, 5 D, 6 D, 7 D, 8 D

## T-IR-IRLML6401PbF-SOT-23
designator T?, comment IRLML6401PbF
p-channel MOSFET, IRLML6401PbF; Manufacturer Name: International Rectifier; Manufacturer Part No.: IRLML6401PbF
footprint SOT95P237X112-3N (SOT23, 3-Leads, Body 3.0x2.6mm (max), Pitch 0.95mm, IPC Medium Density)
pins: 1 G, 2 S, 3 D

## T-ONSemi-MMBT5551LT1G -SOT-23
designator T?, comment MMBT5551LT1G
Bipolar Transistor NPN 160V 600mA  225mW Surface Mount SOT-23-3; Manufacturer Name: ONSemi; Manufacturer Part No.: MMBT5551LT1G
footprint ONSC-SOT-23-3-318-08_V (SOT23, 3-Leads, Body 2.92x1.3mm, Pitch 0.95mm)
pins: 1 B, 2 E, 3 C

## T-ONSemi-NTMFS5C670NLT1G
designator T?, comment NTMFS5C670NLT1G
MOSFET N-CH 60V 68A SO8FL; Manufacturer Name: ONSemi; Manufacturer Part No.: NTMFS5C670NLT1G
footprint T_ONSemi_NTMFS5C670NLT1G
pins: 1 S, 2 S, 3 S, 4 G, 5 D, 6 D, 7 D, 8 D

## T-ONSemi-NTZD3154NT1G
designator T?  Manufacturer Part No.: NTZD3154NT1G  (hidden comment: T-ONSemi-NTZD3154NT1G)
Dual N-Channel 20V (D-S)  MOSFET; Manufacturer Name: ONSemi
footprint SOTFL50P160X60-6N
part A pins: 1 S, 2 G, 6 D
part B pins: 3 D, 4 S, 5 G